# Altium integrated library Actel SmartFusion.IntLib: 80 symbols (part 11 of 14)
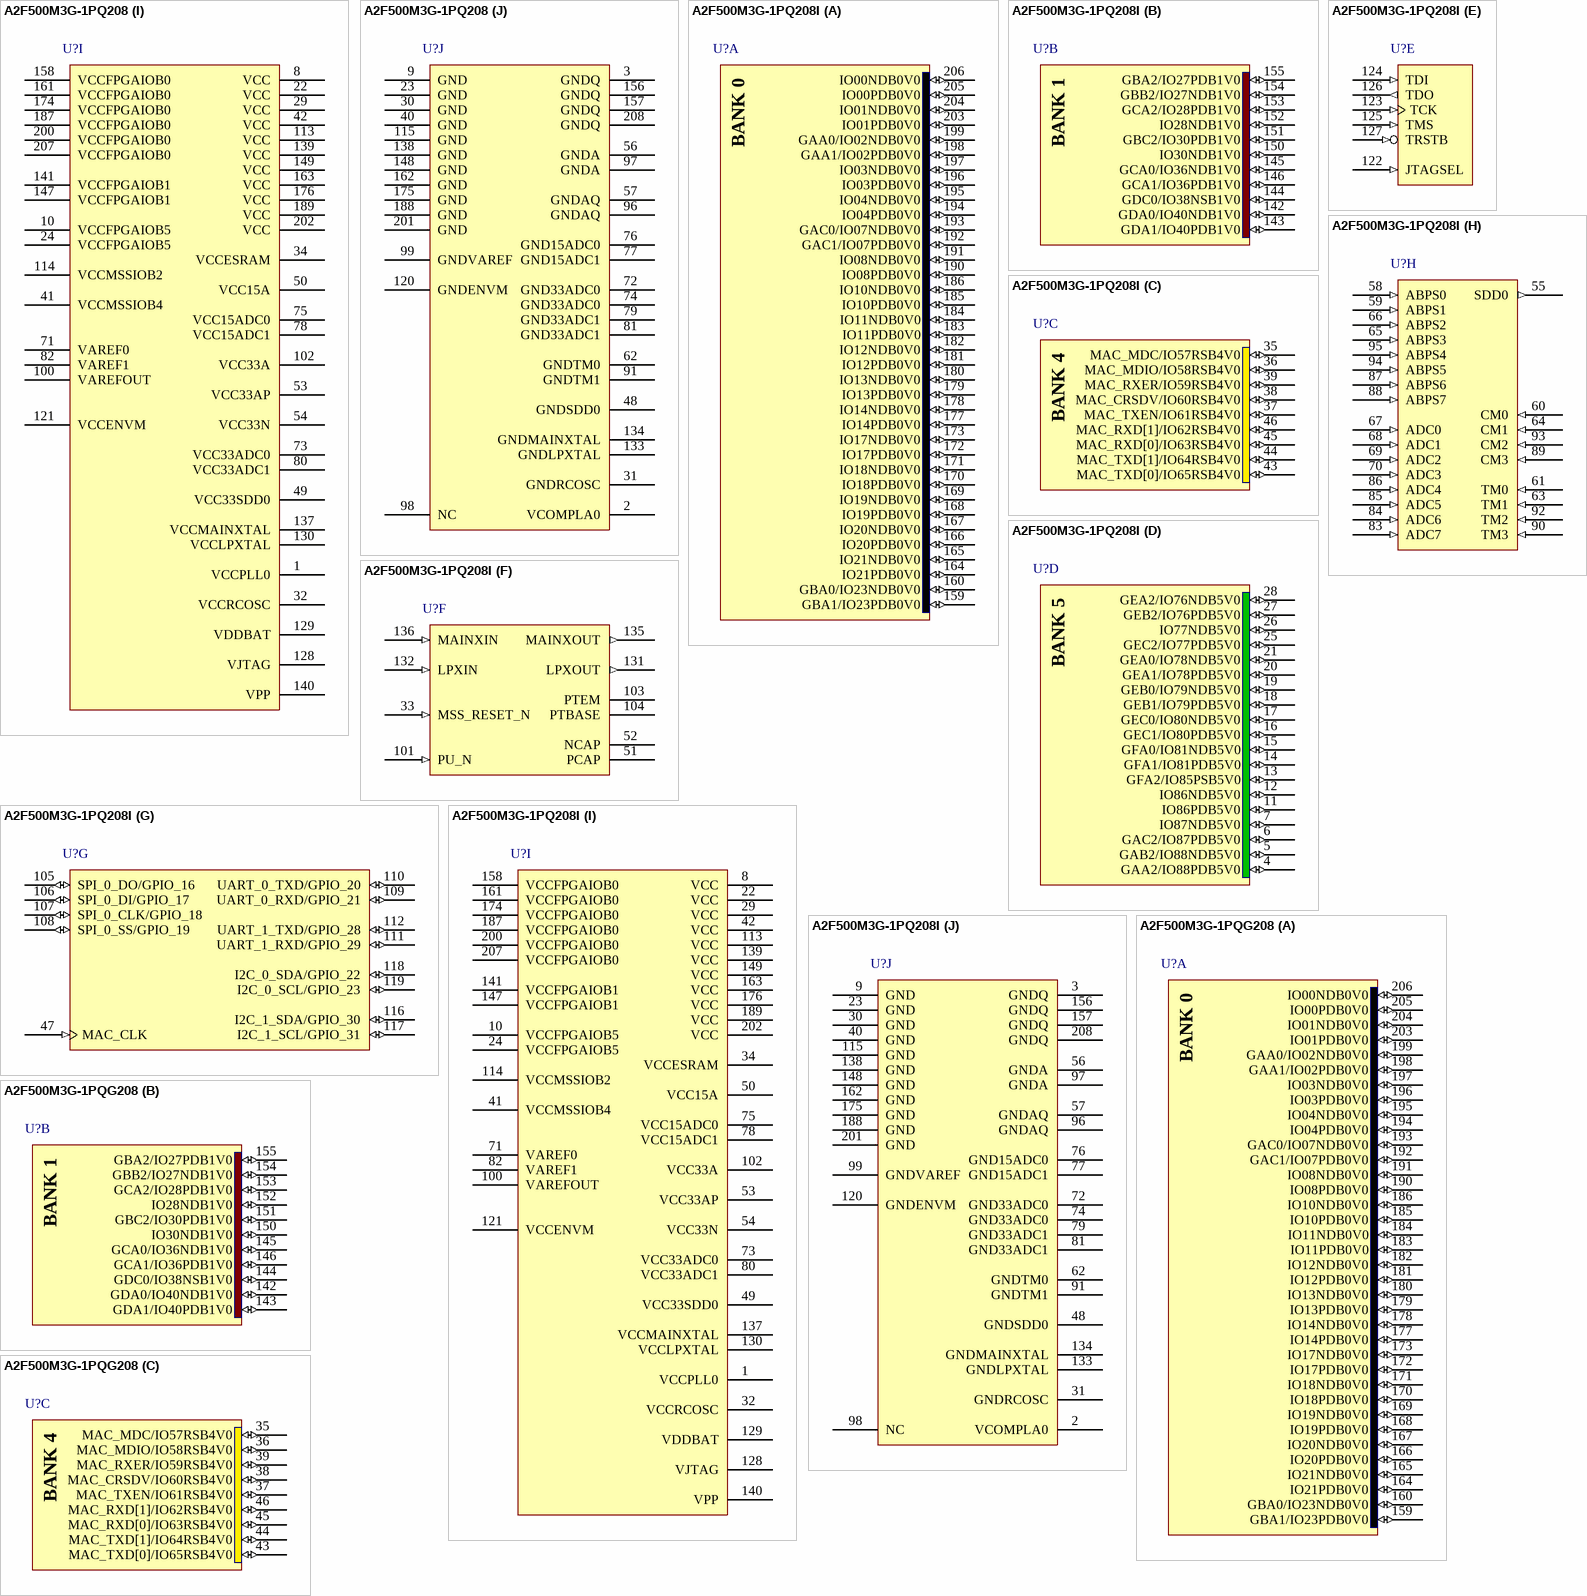
[diagram p95: symbols A2F500M3G-1PQ208 to A2F500M3G-1PQG208]

## A2F500M3G-1PQ208
designator U?
SmartFusion Intellegent Mixed-Signal FPGA with ARM Cortex-M3, 500000 System Gates, 208-Pin PQFP, 15% Faster than Standard Speed Grade, Commercial Grade; DatasheetVersion: rev7, Aug-2011; PackageVersion: ver11.2, Nov-2009; PackageReference: PQ208; PackageDescription: 208-Pin Plastic Quad Flat Pack (PQ208); Code_JEDEC: MS-029-FA-1; ComponentLink1Description: Manufacturer URL; ComponentLink1URL: http://www.actel.com/; ComponentLink2Description: SmartFusion Datasheet; ComponentLink2URL: http://www.actel.com/documents/SmartFusion_DS.pdf; ComponentLink3Description: Package Mechanical Drawings; ComponentLink3URL: http://www.actel.com/documents/PckgMechDrwngs.pdf; ComponentLink4Description: SmartFusion Documents; ComponentLink4URL: http://www.actel.com/products/smartfusion/docs.aspx
footprint PQ208_N (Shrink QFP, 208-Leads, Body 28x28mm, Pitch 0.5mm, IPC Medium Density)
footprint PQ208_L (Shrink QFP, 208-Leads, Body 28x28mm, Pitch 0.5mm, IPC High Density)
footprint PQ208_M (Shrink QFP, 208-Leads, Body 28x28mm, Pitch 0.5mm, IPC Low Density)
part A pins: 159 GBA1/IO23PDB0V0 (io), 160 GBA0/IO23NDB0V0 (io), 164 IO21PDB0V0 (io), 165 IO21NDB0V0 (io), 166 IO20PDB0V0 (io), 167 IO20NDB0V0 (io), 168 IO19PDB0V0 (io), 169 IO19NDB0V0 (io), 170 IO18PDB0V0 (io), 171 IO18NDB0V0 (io), 172 IO17PDB0V0 (io), 173 IO17NDB0V0 (io), 177 IO14PDB0V0 (io), 178 IO14NDB0V0 (io), 179 IO13PDB0V0 (io), 180 IO13NDB0V0 (io), 181 IO12PDB0V0 (io), 182 IO12NDB0V0 (io), 183 IO11PDB0V0 (io), 184 IO11NDB0V0 (io), 185 IO10PDB0V0 (io), 186 IO10NDB0V0 (io), 190 IO08PDB0V0 (io), 191 IO08NDB0V0 (io), 192 GAC1/IO07PDB0V0 (io), 193 GAC0/IO07NDB0V0 (io), 194 IO04PDB0V0 (io), 195 IO04NDB0V0 (io), 196 IO03PDB0V0 (io), 197 IO03NDB0V0 (io), 198 GAA1/IO02PDB0V0 (io), 199 GAA0/IO02NDB0V0 (io), 203 IO01PDB0V0 (io), 204 IO01NDB0V0 (io), 205 IO00PDB0V0 (io), 206 IO00NDB0V0 (io)
part B pins: 142 GDA0/IO40NDB1V0 (io), 143 GDA1/IO40PDB1V0 (io), 144 GDC0/IO38NSB1V0 (io), 145 GCA0/IO36NDB1V0 (io), 146 GCA1/IO36PDB1V0 (io), 150 IO30NDB1V0 (io), 151 GBC2/IO30PDB1V0 (io), 152 IO28NDB1V0 (io), 153 GCA2/IO28PDB1V0 (io), 154 GBB2/IO27NDB1V0 (io), 155 GBA2/IO27PDB1V0 (io)
part C pins: 35 MAC_MDC/IO57RSB4V0 (io), 36 MAC_MDIO/IO58RSB4V0 (io), 37 MAC_TXEN/IO61RSB4V0 (io), 38 MAC_CRSDV/IO60RSB4V0 (io), 39 MAC_RXER/IO59RSB4V0 (io), 43 MAC_TXD[0]/IO65RSB4V0 (io), 44 MAC_TXD[1]/IO64RSB4V0 (io), 45 MAC_RXD[0]/IO63RSB4V0 (io), 46 MAC_RXD[1]/IO62RSB4V0 (io)
part D pins: 4 GAA2/IO88PDB5V0 (io), 5 GAB2/IO88NDB5V0 (io), 6 GAC2/IO87PDB5V0 (io), 7 IO87NDB5V0 (io), 11 IO86PDB5V0 (io), 12 IO86NDB5V0 (io), 13 GFA2/IO85PSB5V0 (io), 14 GFA1/IO81PDB5V0 (io), 15 GFA0/IO81NDB5V0 (io), 16 GEC1/IO80PDB5V0 (io), 17 GEC0/IO80NDB5V0 (io), 18 GEB1/IO79PDB5V0 (io), 19 GEB0/IO79NDB5V0 (io), 20 GEA1/IO78PDB5V0 (io), 21 GEA0/IO78NDB5V0 (io), 25 GEC2/IO77PDB5V0 (io), 26 IO77NDB5V0 (io), 27 GEB2/IO76PDB5V0 (io), 28 GEA2/IO76NDB5V0 (io)
part E pins: 122 JTAGSEL (in), 123 TCK (in), 124 TDI (in), 125 TMS (in), 126 TDO (out), 127 TRSTB (in)
part F pins: 33 MSS_RESET_N (in), 51 PCAP, 52 NCAP, 101 PU_N (in), 103 PTEM, 104 PTBASE, 131 LPXOUT (out), 132 LPXIN (in), 135 MAINXOUT (out), 136 MAINXIN (in)
part G pins: 47 MAC_CLK (in), 105 SPI_0_DO/GPIO_16 (io), 106 SPI_0_DI/GPIO_17 (io), 107 SPI_0_CLK/GPIO_18 (io), 108 SPI_0_SS/GPIO_19 (io), 109 UART_0_RXD/GPIO_21 (io), 110 UART_0_TXD/GPIO_20 (io), 111 UART_1_RXD/GPIO_29 (io), 112 UART_1_TXD/GPIO_28 (io), 116 I2C_1_SDA/GPIO_30 (io), 117 I2C_1_SCL/GPIO_31 (io), 118 I2C_0_SDA/GPIO_22 (io), 119 I2C_0_SCL/GPIO_23 (io)
part H pins: 55 SDD0 (out), 58 ABPS0 (in), 59 ABPS1 (in), 60 CM0 (in), 61 TM0 (in), 63 TM1 (in), 64 CM1 (in), 65 ABPS3 (in), 66 ABPS2 (in), 67 ADC0 (in), 68 ADC1 (in), 69 ADC2 (in), 70 ADC3 (in), 83 ADC7 (in), 84 ADC6 (in), 85 ADC5 (in), 86 ADC4 (in), 87 ABPS6 (in), 88 ABPS7 (in), 89 CM3 (in), 90 TM3 (in), 92 TM2 (in), 93 CM2 (in), 94 ABPS5 (in), 95 ABPS4 (in)
part I pins: 1 VCCPLL0 (power), 8 VCC (power), 10 VCCFPGAIOB5 (power), 22 VCC (power), 24 VCCFPGAIOB5 (power), 29 VCC (power), 32 VCCRCOSC (power), 34 VCCESRAM (power), 41 VCCMSSIOB4 (power), 42 VCC (power), 49 VCC33SDD0 (power), 50 VCC15A (power), 53 VCC33AP (power), 54 VCC33N (power), 71 VAREF0 (power), 73 VCC33ADC0 (power), 75 VCC15ADC0 (power), 78 VCC15ADC1 (power), 80 VCC33ADC1 (power), 82 VAREF1 (power), 100 VAREFOUT (power), 102 VCC33A (power), 113 VCC (power), 114 VCCMSSIOB2 (power), 121 VCCENVM (power), 128 VJTAG (power), 129 VDDBAT (power), 130 VCCLPXTAL (power), 137 VCCMAINXTAL (power), 139 VCC (power), 140 VPP (power), 141 VCCFPGAIOB1 (power), 147 VCCFPGAIOB1 (power), 149 VCC (power), 158 VCCFPGAIOB0 (power), 161 VCCFPGAIOB0 (power), 163 VCC (power), 174 VCCFPGAIOB0 (power), 176 VCC (power), 187 VCCFPGAIOB0 (power), 189 VCC (power), 200 VCCFPGAIOB0 (power), 202 VCC (power), 207 VCCFPGAIOB0 (power)
part J pins: 2 VCOMPLA0 (power), 3 GNDQ (power), 9 GND (power), 23 GND (power), 30 GND (power), 31 GNDRCOSC (power), 40 GND (power), 48 GNDSDD0 (power), 56 GNDA (power), 57 GNDAQ (power), 62 GNDTM0 (power), 72 GND33ADC0 (power), 74 GND33ADC0 (power), 76 GND15ADC0 (power), 77 GND15ADC1 (power), 79 GND33ADC1 (power), 81 GND33ADC1 (power), 91 GNDTM1 (power), 96 GNDAQ (power), 97 GNDA (power), 98 NC, 99 GNDVAREF (power), 115 GND (power), 120 GNDENVM (power), 133 GNDLPXTAL (power), 134 GNDMAINXTAL (power), 138 GND (power), 148 GND (power), 156 GNDQ (power), 157 GNDQ (power), 162 GND (power), 175 GND (power), 188 GND (power), 201 GND (power), 208 GNDQ (power)
part A text: BANK 0
part B text: BANK 1
part C text: BANK 4
part D text: BANK 5

## A2F500M3G-1PQ208I
designator U?
SmartFusion Intellegent Mixed-Signal FPGA with ARM Cortex-M3, 500000 System Gates, 208-Pin PQFP, 15% Faster than Standard Speed Grade, Industrial Grade; DatasheetVersion: rev7, Aug-2011; PackageVersion: ver11.2, Nov-2009; PackageReference: PQ208; PackageDescription: 208-Pin Plastic Quad Flat Pack (PQ208); Code_JEDEC: MS-029-FA-1; ComponentLink1Description: Manufacturer URL; ComponentLink1URL: http://www.actel.com/; ComponentLink2Description: SmartFusion Datasheet; ComponentLink2URL: http://www.actel.com/documents/SmartFusion_DS.pdf; ComponentLink3Description: Package Mechanical Drawings; ComponentLink3URL: http://www.actel.com/documents/PckgMechDrwngs.pdf; ComponentLink4Description: SmartFusion Documents; ComponentLink4URL: http://www.actel.com/products/smartfusion/docs.aspx
footprint PQ208_N (Shrink QFP, 208-Leads, Body 28x28mm, Pitch 0.5mm, IPC Medium Density)
footprint PQ208_L (Shrink QFP, 208-Leads, Body 28x28mm, Pitch 0.5mm, IPC High Density)
footprint PQ208_M (Shrink QFP, 208-Leads, Body 28x28mm, Pitch 0.5mm, IPC Low Density)
part A pins: 159 GBA1/IO23PDB0V0 (io), 160 GBA0/IO23NDB0V0 (io), 164 IO21PDB0V0 (io), 165 IO21NDB0V0 (io), 166 IO20PDB0V0 (io), 167 IO20NDB0V0 (io), 168 IO19PDB0V0 (io), 169 IO19NDB0V0 (io), 170 IO18PDB0V0 (io), 171 IO18NDB0V0 (io), 172 IO17PDB0V0 (io), 173 IO17NDB0V0 (io), 177 IO14PDB0V0 (io), 178 IO14NDB0V0 (io), 179 IO13PDB0V0 (io), 180 IO13NDB0V0 (io), 181 IO12PDB0V0 (io), 182 IO12NDB0V0 (io), 183 IO11PDB0V0 (io), 184 IO11NDB0V0 (io), 185 IO10PDB0V0 (io), 186 IO10NDB0V0 (io), 190 IO08PDB0V0 (io), 191 IO08NDB0V0 (io), 192 GAC1/IO07PDB0V0 (io), 193 GAC0/IO07NDB0V0 (io), 194 IO04PDB0V0 (io), 195 IO04NDB0V0 (io), 196 IO03PDB0V0 (io), 197 IO03NDB0V0 (io), 198 GAA1/IO02PDB0V0 (io), 199 GAA0/IO02NDB0V0 (io), 203 IO01PDB0V0 (io), 204 IO01NDB0V0 (io), 205 IO00PDB0V0 (io), 206 IO00NDB0V0 (io)
part B pins: 142 GDA0/IO40NDB1V0 (io), 143 GDA1/IO40PDB1V0 (io), 144 GDC0/IO38NSB1V0 (io), 145 GCA0/IO36NDB1V0 (io), 146 GCA1/IO36PDB1V0 (io), 150 IO30NDB1V0 (io), 151 GBC2/IO30PDB1V0 (io), 152 IO28NDB1V0 (io), 153 GCA2/IO28PDB1V0 (io), 154 GBB2/IO27NDB1V0 (io), 155 GBA2/IO27PDB1V0 (io)
part C pins: 35 MAC_MDC/IO57RSB4V0 (io), 36 MAC_MDIO/IO58RSB4V0 (io), 37 MAC_TXEN/IO61RSB4V0 (io), 38 MAC_CRSDV/IO60RSB4V0 (io), 39 MAC_RXER/IO59RSB4V0 (io), 43 MAC_TXD[0]/IO65RSB4V0 (io), 44 MAC_TXD[1]/IO64RSB4V0 (io), 45 MAC_RXD[0]/IO63RSB4V0 (io), 46 MAC_RXD[1]/IO62RSB4V0 (io)
part D pins: 4 GAA2/IO88PDB5V0 (io), 5 GAB2/IO88NDB5V0 (io), 6 GAC2/IO87PDB5V0 (io), 7 IO87NDB5V0 (io), 11 IO86PDB5V0 (io), 12 IO86NDB5V0 (io), 13 GFA2/IO85PSB5V0 (io), 14 GFA1/IO81PDB5V0 (io), 15 GFA0/IO81NDB5V0 (io), 16 GEC1/IO80PDB5V0 (io), 17 GEC0/IO80NDB5V0 (io), 18 GEB1/IO79PDB5V0 (io), 19 GEB0/IO79NDB5V0 (io), 20 GEA1/IO78PDB5V0 (io), 21 GEA0/IO78NDB5V0 (io), 25 GEC2/IO77PDB5V0 (io), 26 IO77NDB5V0 (io), 27 GEB2/IO76PDB5V0 (io), 28 GEA2/IO76NDB5V0 (io)
part E pins: 122 JTAGSEL (in), 123 TCK (in), 124 TDI (in), 125 TMS (in), 126 TDO (out), 127 TRSTB (in)
part F pins: 33 MSS_RESET_N (in), 51 PCAP, 52 NCAP, 101 PU_N (in), 103 PTEM, 104 PTBASE, 131 LPXOUT (out), 132 LPXIN (in), 135 MAINXOUT (out), 136 MAINXIN (in)
part G pins: 47 MAC_CLK (in), 105 SPI_0_DO/GPIO_16 (io), 106 SPI_0_DI/GPIO_17 (io), 107 SPI_0_CLK/GPIO_18 (io), 108 SPI_0_SS/GPIO_19 (io), 109 UART_0_RXD/GPIO_21 (io), 110 UART_0_TXD/GPIO_20 (io), 111 UART_1_RXD/GPIO_29 (io), 112 UART_1_TXD/GPIO_28 (io), 116 I2C_1_SDA/GPIO_30 (io), 117 I2C_1_SCL/GPIO_31 (io), 118 I2C_0_SDA/GPIO_22 (io), 119 I2C_0_SCL/GPIO_23 (io)
part H pins: 55 SDD0 (out), 58 ABPS0 (in), 59 ABPS1 (in), 60 CM0 (in), 61 TM0 (in), 63 TM1 (in), 64 CM1 (in), 65 ABPS3 (in), 66 ABPS2 (in), 67 ADC0 (in), 68 ADC1 (in), 69 ADC2 (in), 70 ADC3 (in), 83 ADC7 (in), 84 ADC6 (in), 85 ADC5 (in), 86 ADC4 (in), 87 ABPS6 (in), 88 ABPS7 (in), 89 CM3 (in), 90 TM3 (in), 92 TM2 (in), 93 CM2 (in), 94 ABPS5 (in), 95 ABPS4 (in)
part I pins: 1 VCCPLL0 (power), 8 VCC (power), 10 VCCFPGAIOB5 (power), 22 VCC (power), 24 VCCFPGAIOB5 (power), 29 VCC (power), 32 VCCRCOSC (power), 34 VCCESRAM (power), 41 VCCMSSIOB4 (power), 42 VCC (power), 49 VCC33SDD0 (power), 50 VCC15A (power), 53 VCC33AP (power), 54 VCC33N (power), 71 VAREF0 (power), 73 VCC33ADC0 (power), 75 VCC15ADC0 (power), 78 VCC15ADC1 (power), 80 VCC33ADC1 (power), 82 VAREF1 (power), 100 VAREFOUT (power), 102 VCC33A (power), 113 VCC (power), 114 VCCMSSIOB2 (power), 121 VCCENVM (power), 128 VJTAG (power), 129 VDDBAT (power), 130 VCCLPXTAL (power), 137 VCCMAINXTAL (power), 139 VCC (power), 140 VPP (power), 141 VCCFPGAIOB1 (power), 147 VCCFPGAIOB1 (power), 149 VCC (power), 158 VCCFPGAIOB0 (power), 161 VCCFPGAIOB0 (power), 163 VCC (power), 174 VCCFPGAIOB0 (power), 176 VCC (power), 187 VCCFPGAIOB0 (power), 189 VCC (power), 200 VCCFPGAIOB0 (power), 202 VCC (power), 207 VCCFPGAIOB0 (power)
part J pins: 2 VCOMPLA0 (power), 3 GNDQ (power), 9 GND (power), 23 GND (power), 30 GND (power), 31 GNDRCOSC (power), 40 GND (power), 48 GNDSDD0 (power), 56 GNDA (power), 57 GNDAQ (power), 62 GNDTM0 (power), 72 GND33ADC0 (power), 74 GND33ADC0 (power), 76 GND15ADC0 (power), 77 GND15ADC1 (power), 79 GND33ADC1 (power), 81 GND33ADC1 (power), 91 GNDTM1 (power), 96 GNDAQ (power), 97 GNDA (power), 98 NC, 99 GNDVAREF (power), 115 GND (power), 120 GNDENVM (power), 133 GNDLPXTAL (power), 134 GNDMAINXTAL (power), 138 GND (power), 148 GND (power), 156 GNDQ (power), 157 GNDQ (power), 162 GND (power), 175 GND (power), 188 GND (power), 201 GND (power), 208 GNDQ (power)
part A text: BANK 0
part B text: BANK 1
part C text: BANK 4
part D text: BANK 5

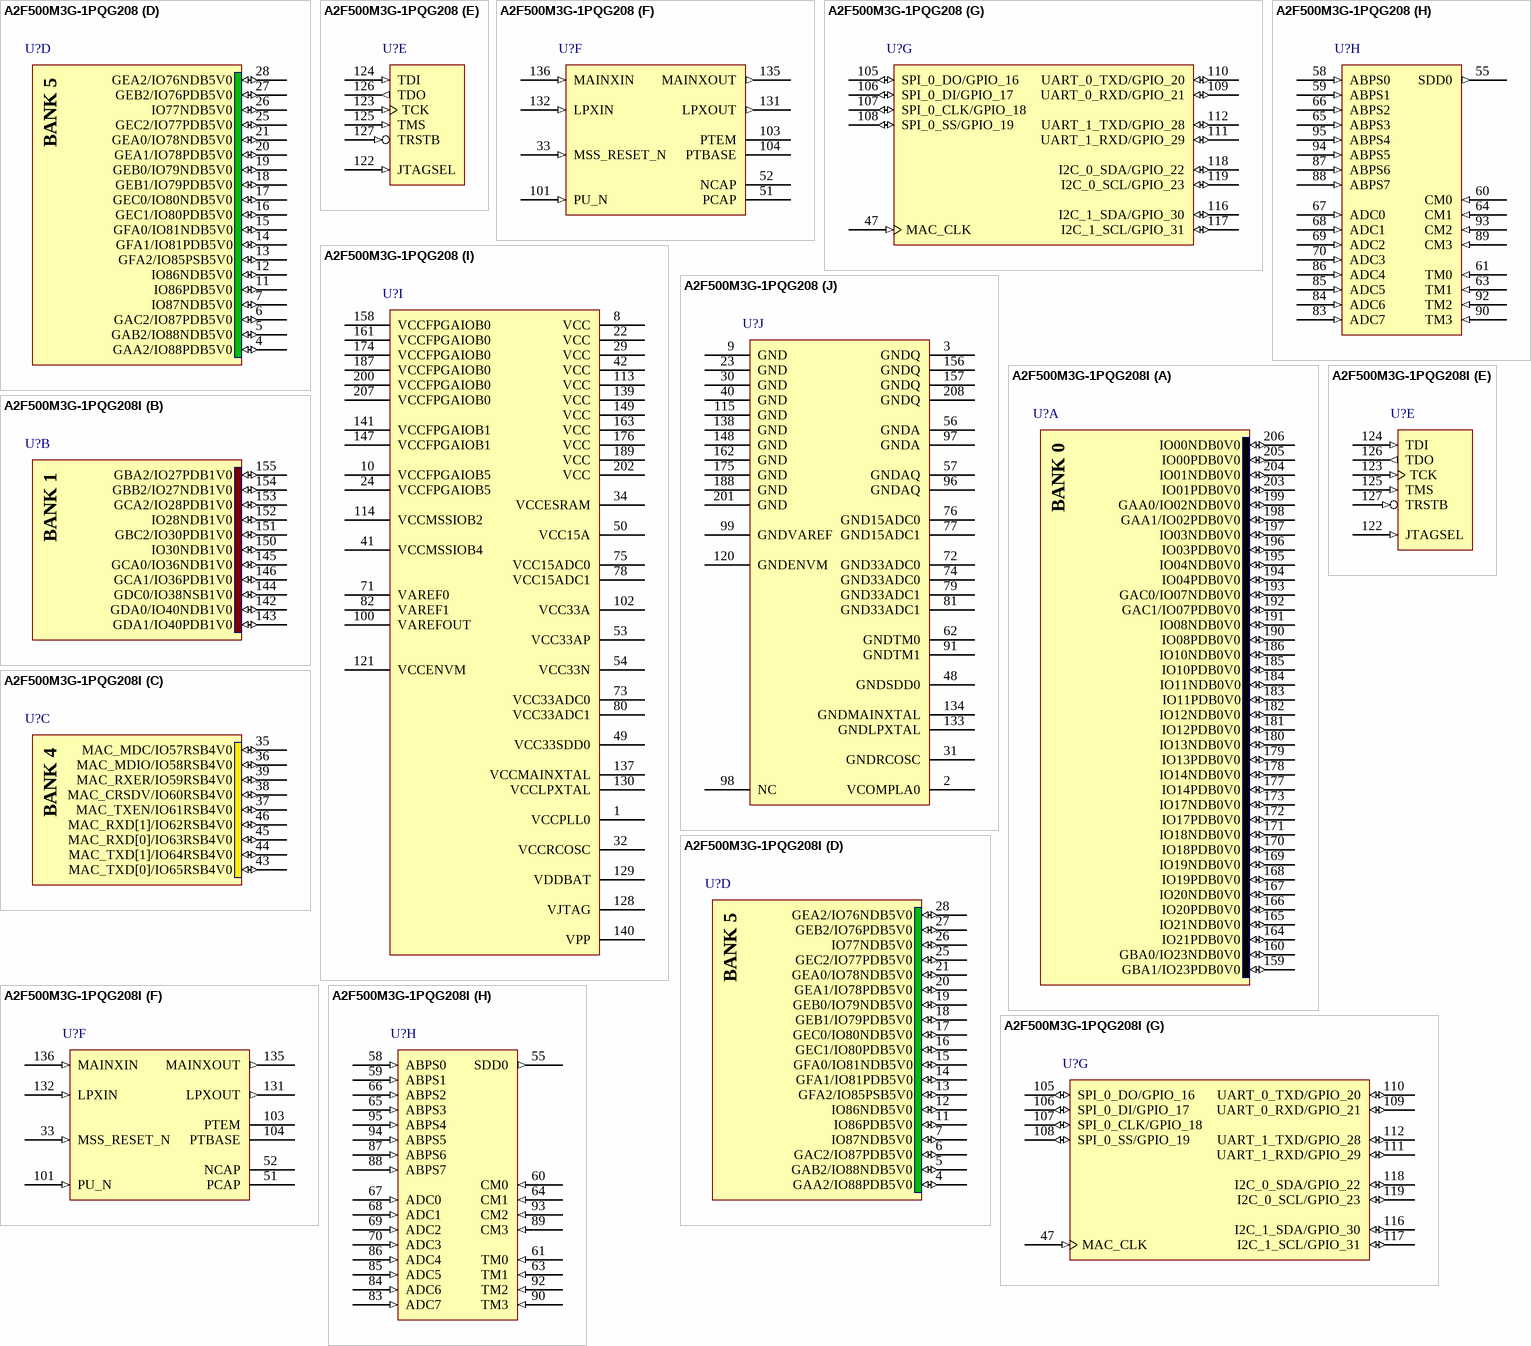
[diagram p67: symbols A2F500M3G-1PQG208 to A2F500M3G-1PQG208I]

## A2F500M3G-1PQG208
designator U?
SmartFusion Intellegent Mixed-Signal FPGA with ARM Cortex-M3, 500000 System Gates, 208-Pin PQFP, 15% Faster than Standard Speed Grade, Commercial Grade, Pb-Free; DatasheetVersion: rev7, Aug-2011; PackageVersion: ver11.2, Nov-2009; PackageReference: PQ208; PackageDescription: 208-Pin Plastic Quad Flat Pack (PQ208); Code_JEDEC: MS-029-FA-1; ComponentLink1Description: Manufacturer URL; ComponentLink1URL: http://www.actel.com/; ComponentLink2Description: SmartFusion Datasheet; ComponentLink2URL: http://www.actel.com/documents/SmartFusion_DS.pdf; ComponentLink3Description: Package Mechanical Drawings; ComponentLink3URL: http://www.actel.com/documents/PckgMechDrwngs.pdf; ComponentLink4Description: SmartFusion Documents; ComponentLink4URL: http://www.actel.com/products/smartfusion/docs.aspx
footprint PQ208_N (Shrink QFP, 208-Leads, Body 28x28mm, Pitch 0.5mm, IPC Medium Density)
footprint PQ208_L (Shrink QFP, 208-Leads, Body 28x28mm, Pitch 0.5mm, IPC High Density)
footprint PQ208_M (Shrink QFP, 208-Leads, Body 28x28mm, Pitch 0.5mm, IPC Low Density)
part A pins: 159 GBA1/IO23PDB0V0 (io), 160 GBA0/IO23NDB0V0 (io), 164 IO21PDB0V0 (io), 165 IO21NDB0V0 (io), 166 IO20PDB0V0 (io), 167 IO20NDB0V0 (io), 168 IO19PDB0V0 (io), 169 IO19NDB0V0 (io), 170 IO18PDB0V0 (io), 171 IO18NDB0V0 (io), 172 IO17PDB0V0 (io), 173 IO17NDB0V0 (io), 177 IO14PDB0V0 (io), 178 IO14NDB0V0 (io), 179 IO13PDB0V0 (io), 180 IO13NDB0V0 (io), 181 IO12PDB0V0 (io), 182 IO12NDB0V0 (io), 183 IO11PDB0V0 (io), 184 IO11NDB0V0 (io), 185 IO10PDB0V0 (io), 186 IO10NDB0V0 (io), 190 IO08PDB0V0 (io), 191 IO08NDB0V0 (io), 192 GAC1/IO07PDB0V0 (io), 193 GAC0/IO07NDB0V0 (io), 194 IO04PDB0V0 (io), 195 IO04NDB0V0 (io), 196 IO03PDB0V0 (io), 197 IO03NDB0V0 (io), 198 GAA1/IO02PDB0V0 (io), 199 GAA0/IO02NDB0V0 (io), 203 IO01PDB0V0 (io), 204 IO01NDB0V0 (io), 205 IO00PDB0V0 (io), 206 IO00NDB0V0 (io)
part B pins: 142 GDA0/IO40NDB1V0 (io), 143 GDA1/IO40PDB1V0 (io), 144 GDC0/IO38NSB1V0 (io), 145 GCA0/IO36NDB1V0 (io), 146 GCA1/IO36PDB1V0 (io), 150 IO30NDB1V0 (io), 151 GBC2/IO30PDB1V0 (io), 152 IO28NDB1V0 (io), 153 GCA2/IO28PDB1V0 (io), 154 GBB2/IO27NDB1V0 (io), 155 GBA2/IO27PDB1V0 (io)
part C pins: 35 MAC_MDC/IO57RSB4V0 (io), 36 MAC_MDIO/IO58RSB4V0 (io), 37 MAC_TXEN/IO61RSB4V0 (io), 38 MAC_CRSDV/IO60RSB4V0 (io), 39 MAC_RXER/IO59RSB4V0 (io), 43 MAC_TXD[0]/IO65RSB4V0 (io), 44 MAC_TXD[1]/IO64RSB4V0 (io), 45 MAC_RXD[0]/IO63RSB4V0 (io), 46 MAC_RXD[1]/IO62RSB4V0 (io)
part D pins: 4 GAA2/IO88PDB5V0 (io), 5 GAB2/IO88NDB5V0 (io), 6 GAC2/IO87PDB5V0 (io), 7 IO87NDB5V0 (io), 11 IO86PDB5V0 (io), 12 IO86NDB5V0 (io), 13 GFA2/IO85PSB5V0 (io), 14 GFA1/IO81PDB5V0 (io), 15 GFA0/IO81NDB5V0 (io), 16 GEC1/IO80PDB5V0 (io), 17 GEC0/IO80NDB5V0 (io), 18 GEB1/IO79PDB5V0 (io), 19 GEB0/IO79NDB5V0 (io), 20 GEA1/IO78PDB5V0 (io), 21 GEA0/IO78NDB5V0 (io), 25 GEC2/IO77PDB5V0 (io), 26 IO77NDB5V0 (io), 27 GEB2/IO76PDB5V0 (io), 28 GEA2/IO76NDB5V0 (io)
part E pins: 122 JTAGSEL (in), 123 TCK (in), 124 TDI (in), 125 TMS (in), 126 TDO (out), 127 TRSTB (in)
part F pins: 33 MSS_RESET_N (in), 51 PCAP, 52 NCAP, 101 PU_N (in), 103 PTEM, 104 PTBASE, 131 LPXOUT (out), 132 LPXIN (in), 135 MAINXOUT (out), 136 MAINXIN (in)
part G pins: 47 MAC_CLK (in), 105 SPI_0_DO/GPIO_16 (io), 106 SPI_0_DI/GPIO_17 (io), 107 SPI_0_CLK/GPIO_18 (io), 108 SPI_0_SS/GPIO_19 (io), 109 UART_0_RXD/GPIO_21 (io), 110 UART_0_TXD/GPIO_20 (io), 111 UART_1_RXD/GPIO_29 (io), 112 UART_1_TXD/GPIO_28 (io), 116 I2C_1_SDA/GPIO_30 (io), 117 I2C_1_SCL/GPIO_31 (io), 118 I2C_0_SDA/GPIO_22 (io), 119 I2C_0_SCL/GPIO_23 (io)
part H pins: 55 SDD0 (out), 58 ABPS0 (in), 59 ABPS1 (in), 60 CM0 (in), 61 TM0 (in), 63 TM1 (in), 64 CM1 (in), 65 ABPS3 (in), 66 ABPS2 (in), 67 ADC0 (in), 68 ADC1 (in), 69 ADC2 (in), 70 ADC3 (in), 83 ADC7 (in), 84 ADC6 (in), 85 ADC5 (in), 86 ADC4 (in), 87 ABPS6 (in), 88 ABPS7 (in), 89 CM3 (in), 90 TM3 (in), 92 TM2 (in), 93 CM2 (in), 94 ABPS5 (in), 95 ABPS4 (in)
part I pins: 1 VCCPLL0 (power), 8 VCC (power), 10 VCCFPGAIOB5 (power), 22 VCC (power), 24 VCCFPGAIOB5 (power), 29 VCC (power), 32 VCCRCOSC (power), 34 VCCESRAM (power), 41 VCCMSSIOB4 (power), 42 VCC (power), 49 VCC33SDD0 (power), 50 VCC15A (power), 53 VCC33AP (power), 54 VCC33N (power), 71 VAREF0 (power), 73 VCC33ADC0 (power), 75 VCC15ADC0 (power), 78 VCC15ADC1 (power), 80 VCC33ADC1 (power), 82 VAREF1 (power), 100 VAREFOUT (power), 102 VCC33A (power), 113 VCC (power), 114 VCCMSSIOB2 (power), 121 VCCENVM (power), 128 VJTAG (power), 129 VDDBAT (power), 130 VCCLPXTAL (power), 137 VCCMAINXTAL (power), 139 VCC (power), 140 VPP (power), 141 VCCFPGAIOB1 (power), 147 VCCFPGAIOB1 (power), 149 VCC (power), 158 VCCFPGAIOB0 (power), 161 VCCFPGAIOB0 (power), 163 VCC (power), 174 VCCFPGAIOB0 (power), 176 VCC (power), 187 VCCFPGAIOB0 (power), 189 VCC (power), 200 VCCFPGAIOB0 (power), 202 VCC (power), 207 VCCFPGAIOB0 (power)
part J pins: 2 VCOMPLA0 (power), 3 GNDQ (power), 9 GND (power), 23 GND (power), 30 GND (power), 31 GNDRCOSC (power), 40 GND (power), 48 GNDSDD0 (power), 56 GNDA (power), 57 GNDAQ (power), 62 GNDTM0 (power), 72 GND33ADC0 (power), 74 GND33ADC0 (power), 76 GND15ADC0 (power), 77 GND15ADC1 (power), 79 GND33ADC1 (power), 81 GND33ADC1 (power), 91 GNDTM1 (power), 96 GNDAQ (power), 97 GNDA (power), 98 NC, 99 GNDVAREF (power), 115 GND (power), 120 GNDENVM (power), 133 GNDLPXTAL (power), 134 GNDMAINXTAL (power), 138 GND (power), 148 GND (power), 156 GNDQ (power), 157 GNDQ (power), 162 GND (power), 175 GND (power), 188 GND (power), 201 GND (power), 208 GNDQ (power)
part A text: BANK 0
part B text: BANK 1
part C text: BANK 4
part D text: BANK 5

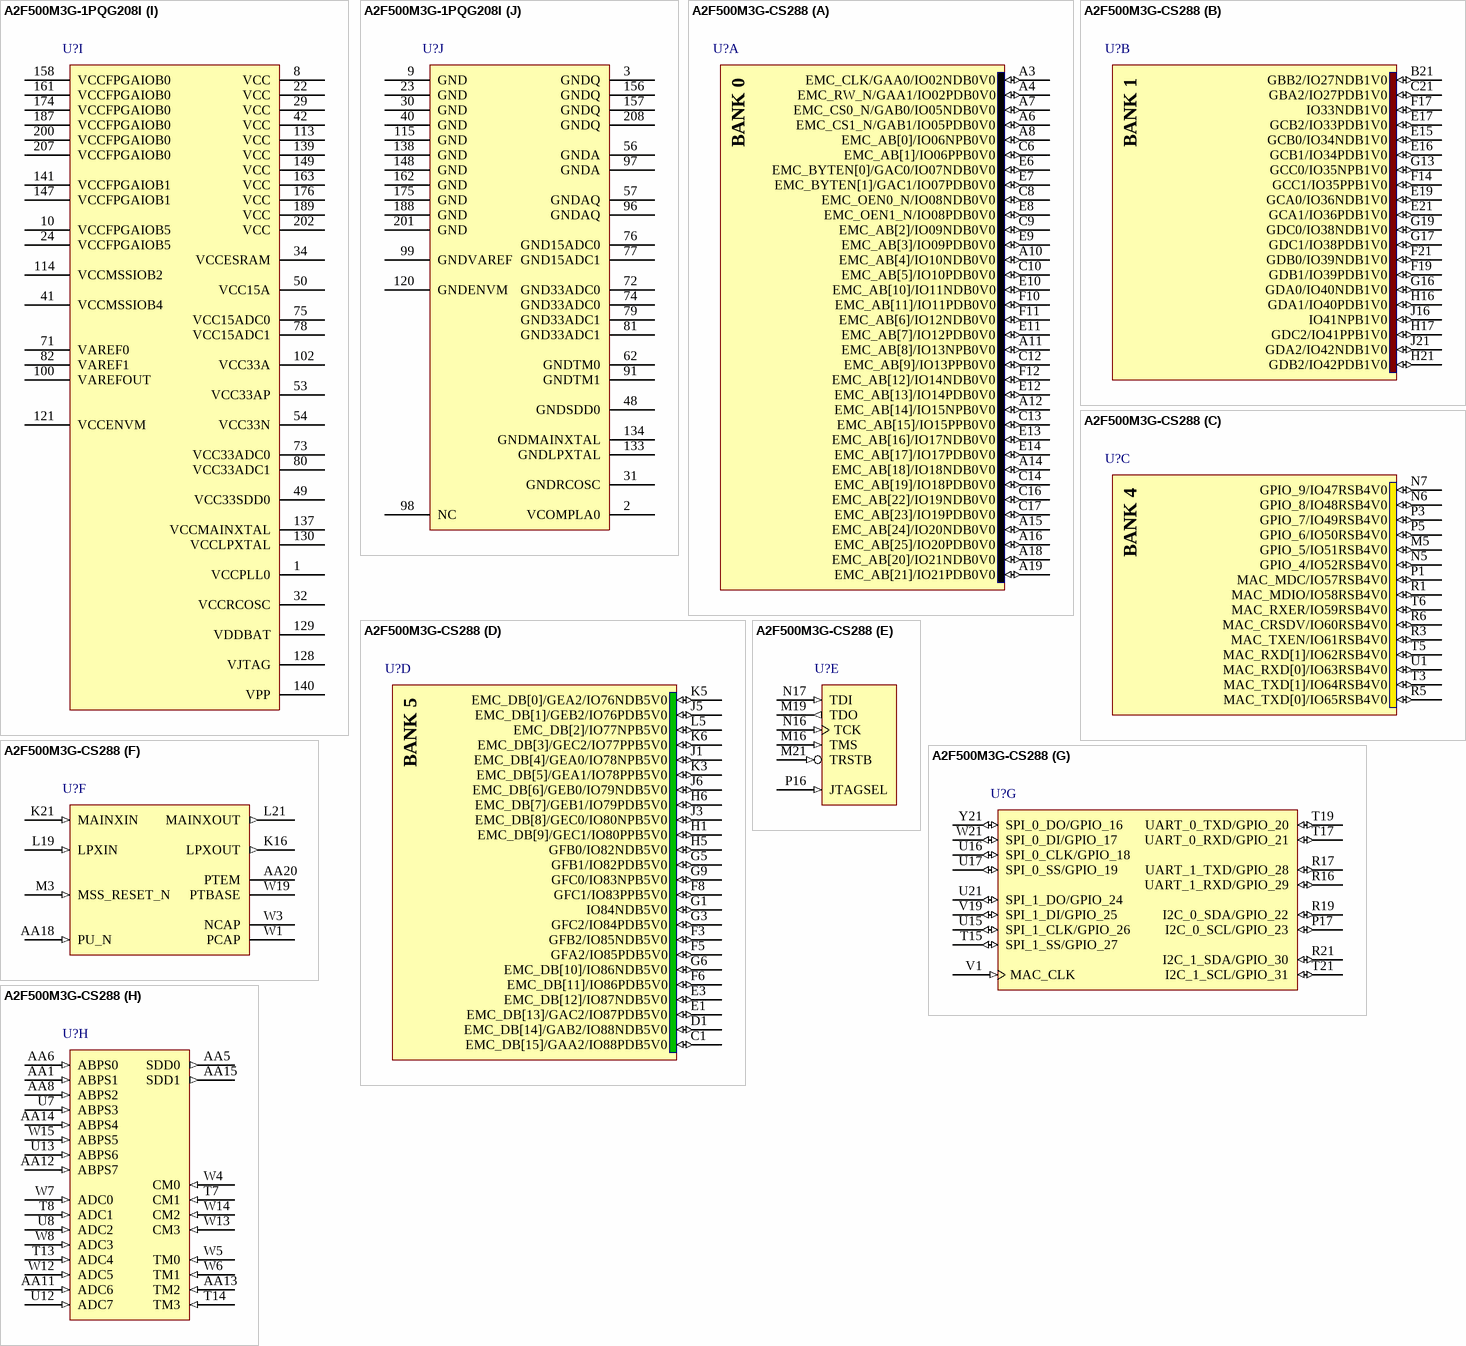
[diagram p68: symbols A2F500M3G-1PQG208I to A2F500M3G-CS288]

## A2F500M3G-1PQG208I
designator U?
SmartFusion Intellegent Mixed-Signal FPGA with ARM Cortex-M3, 500000 System Gates, 208-Pin PQFP, 15% Faster than Standard Speed Grade, Industrial Grade, Pb-Free; DatasheetVersion: rev7, Aug-2011; PackageVersion: ver11.2, Nov-2009; PackageReference: PQ208; PackageDescription: 208-Pin Plastic Quad Flat Pack (PQ208); Code_JEDEC: MS-029-FA-1; ComponentLink1Description: Manufacturer URL; ComponentLink1URL: http://www.actel.com/; ComponentLink2Description: SmartFusion Datasheet; ComponentLink2URL: http://www.actel.com/documents/SmartFusion_DS.pdf; ComponentLink3Description: Package Mechanical Drawings; ComponentLink3URL: http://www.actel.com/documents/PckgMechDrwngs.pdf; ComponentLink4Description: SmartFusion Documents; ComponentLink4URL: http://www.actel.com/products/smartfusion/docs.aspx
footprint PQ208_N (Shrink QFP, 208-Leads, Body 28x28mm, Pitch 0.5mm, IPC Medium Density)
footprint PQ208_L (Shrink QFP, 208-Leads, Body 28x28mm, Pitch 0.5mm, IPC High Density)
footprint PQ208_M (Shrink QFP, 208-Leads, Body 28x28mm, Pitch 0.5mm, IPC Low Density)
part A pins: 159 GBA1/IO23PDB0V0 (io), 160 GBA0/IO23NDB0V0 (io), 164 IO21PDB0V0 (io), 165 IO21NDB0V0 (io), 166 IO20PDB0V0 (io), 167 IO20NDB0V0 (io), 168 IO19PDB0V0 (io), 169 IO19NDB0V0 (io), 170 IO18PDB0V0 (io), 171 IO18NDB0V0 (io), 172 IO17PDB0V0 (io), 173 IO17NDB0V0 (io), 177 IO14PDB0V0 (io), 178 IO14NDB0V0 (io), 179 IO13PDB0V0 (io), 180 IO13NDB0V0 (io), 181 IO12PDB0V0 (io), 182 IO12NDB0V0 (io), 183 IO11PDB0V0 (io), 184 IO11NDB0V0 (io), 185 IO10PDB0V0 (io), 186 IO10NDB0V0 (io), 190 IO08PDB0V0 (io), 191 IO08NDB0V0 (io), 192 GAC1/IO07PDB0V0 (io), 193 GAC0/IO07NDB0V0 (io), 194 IO04PDB0V0 (io), 195 IO04NDB0V0 (io), 196 IO03PDB0V0 (io), 197 IO03NDB0V0 (io), 198 GAA1/IO02PDB0V0 (io), 199 GAA0/IO02NDB0V0 (io), 203 IO01PDB0V0 (io), 204 IO01NDB0V0 (io), 205 IO00PDB0V0 (io), 206 IO00NDB0V0 (io)
part B pins: 142 GDA0/IO40NDB1V0 (io), 143 GDA1/IO40PDB1V0 (io), 144 GDC0/IO38NSB1V0 (io), 145 GCA0/IO36NDB1V0 (io), 146 GCA1/IO36PDB1V0 (io), 150 IO30NDB1V0 (io), 151 GBC2/IO30PDB1V0 (io), 152 IO28NDB1V0 (io), 153 GCA2/IO28PDB1V0 (io), 154 GBB2/IO27NDB1V0 (io), 155 GBA2/IO27PDB1V0 (io)
part C pins: 35 MAC_MDC/IO57RSB4V0 (io), 36 MAC_MDIO/IO58RSB4V0 (io), 37 MAC_TXEN/IO61RSB4V0 (io), 38 MAC_CRSDV/IO60RSB4V0 (io), 39 MAC_RXER/IO59RSB4V0 (io), 43 MAC_TXD[0]/IO65RSB4V0 (io), 44 MAC_TXD[1]/IO64RSB4V0 (io), 45 MAC_RXD[0]/IO63RSB4V0 (io), 46 MAC_RXD[1]/IO62RSB4V0 (io)
part D pins: 4 GAA2/IO88PDB5V0 (io), 5 GAB2/IO88NDB5V0 (io), 6 GAC2/IO87PDB5V0 (io), 7 IO87NDB5V0 (io), 11 IO86PDB5V0 (io), 12 IO86NDB5V0 (io), 13 GFA2/IO85PSB5V0 (io), 14 GFA1/IO81PDB5V0 (io), 15 GFA0/IO81NDB5V0 (io), 16 GEC1/IO80PDB5V0 (io), 17 GEC0/IO80NDB5V0 (io), 18 GEB1/IO79PDB5V0 (io), 19 GEB0/IO79NDB5V0 (io), 20 GEA1/IO78PDB5V0 (io), 21 GEA0/IO78NDB5V0 (io), 25 GEC2/IO77PDB5V0 (io), 26 IO77NDB5V0 (io), 27 GEB2/IO76PDB5V0 (io), 28 GEA2/IO76NDB5V0 (io)
part E pins: 122 JTAGSEL (in), 123 TCK (in), 124 TDI (in), 125 TMS (in), 126 TDO (out), 127 TRSTB (in)
part F pins: 33 MSS_RESET_N (in), 51 PCAP, 52 NCAP, 101 PU_N (in), 103 PTEM, 104 PTBASE, 131 LPXOUT (out), 132 LPXIN (in), 135 MAINXOUT (out), 136 MAINXIN (in)
part G pins: 47 MAC_CLK (in), 105 SPI_0_DO/GPIO_16 (io), 106 SPI_0_DI/GPIO_17 (io), 107 SPI_0_CLK/GPIO_18 (io), 108 SPI_0_SS/GPIO_19 (io), 109 UART_0_RXD/GPIO_21 (io), 110 UART_0_TXD/GPIO_20 (io), 111 UART_1_RXD/GPIO_29 (io), 112 UART_1_TXD/GPIO_28 (io), 116 I2C_1_SDA/GPIO_30 (io), 117 I2C_1_SCL/GPIO_31 (io), 118 I2C_0_SDA/GPIO_22 (io), 119 I2C_0_SCL/GPIO_23 (io)
part H pins: 55 SDD0 (out), 58 ABPS0 (in), 59 ABPS1 (in), 60 CM0 (in), 61 TM0 (in), 63 TM1 (in), 64 CM1 (in), 65 ABPS3 (in), 66 ABPS2 (in), 67 ADC0 (in), 68 ADC1 (in), 69 ADC2 (in), 70 ADC3 (in), 83 ADC7 (in), 84 ADC6 (in), 85 ADC5 (in), 86 ADC4 (in), 87 ABPS6 (in), 88 ABPS7 (in), 89 CM3 (in), 90 TM3 (in), 92 TM2 (in), 93 CM2 (in), 94 ABPS5 (in), 95 ABPS4 (in)
part I pins: 1 VCCPLL0 (power), 8 VCC (power), 10 VCCFPGAIOB5 (power), 22 VCC (power), 24 VCCFPGAIOB5 (power), 29 VCC (power), 32 VCCRCOSC (power), 34 VCCESRAM (power), 41 VCCMSSIOB4 (power), 42 VCC (power), 49 VCC33SDD0 (power), 50 VCC15A (power), 53 VCC33AP (power), 54 VCC33N (power), 71 VAREF0 (power), 73 VCC33ADC0 (power), 75 VCC15ADC0 (power), 78 VCC15ADC1 (power), 80 VCC33ADC1 (power), 82 VAREF1 (power), 100 VAREFOUT (power), 102 VCC33A (power), 113 VCC (power), 114 VCCMSSIOB2 (power), 121 VCCENVM (power), 128 VJTAG (power), 129 VDDBAT (power), 130 VCCLPXTAL (power), 137 VCCMAINXTAL (power), 139 VCC (power), 140 VPP (power), 141 VCCFPGAIOB1 (power), 147 VCCFPGAIOB1 (power), 149 VCC (power), 158 VCCFPGAIOB0 (power), 161 VCCFPGAIOB0 (power), 163 VCC (power), 174 VCCFPGAIOB0 (power), 176 VCC (power), 187 VCCFPGAIOB0 (power), 189 VCC (power), 200 VCCFPGAIOB0 (power), 202 VCC (power), 207 VCCFPGAIOB0 (power)
part J pins: 2 VCOMPLA0 (power), 3 GNDQ (power), 9 GND (power), 23 GND (power), 30 GND (power), 31 GNDRCOSC (power), 40 GND (power), 48 GNDSDD0 (power), 56 GNDA (power), 57 GNDAQ (power), 62 GNDTM0 (power), 72 GND33ADC0 (power), 74 GND33ADC0 (power), 76 GND15ADC0 (power), 77 GND15ADC1 (power), 79 GND33ADC1 (power), 81 GND33ADC1 (power), 91 GNDTM1 (power), 96 GNDAQ (power), 97 GNDA (power), 98 NC, 99 GNDVAREF (power), 115 GND (power), 120 GNDENVM (power), 133 GNDLPXTAL (power), 134 GNDMAINXTAL (power), 138 GND (power), 148 GND (power), 156 GNDQ (power), 157 GNDQ (power), 162 GND (power), 175 GND (power), 188 GND (power), 201 GND (power), 208 GNDQ (power)
part A text: BANK 0
part B text: BANK 1
part C text: BANK 4
part D text: BANK 5

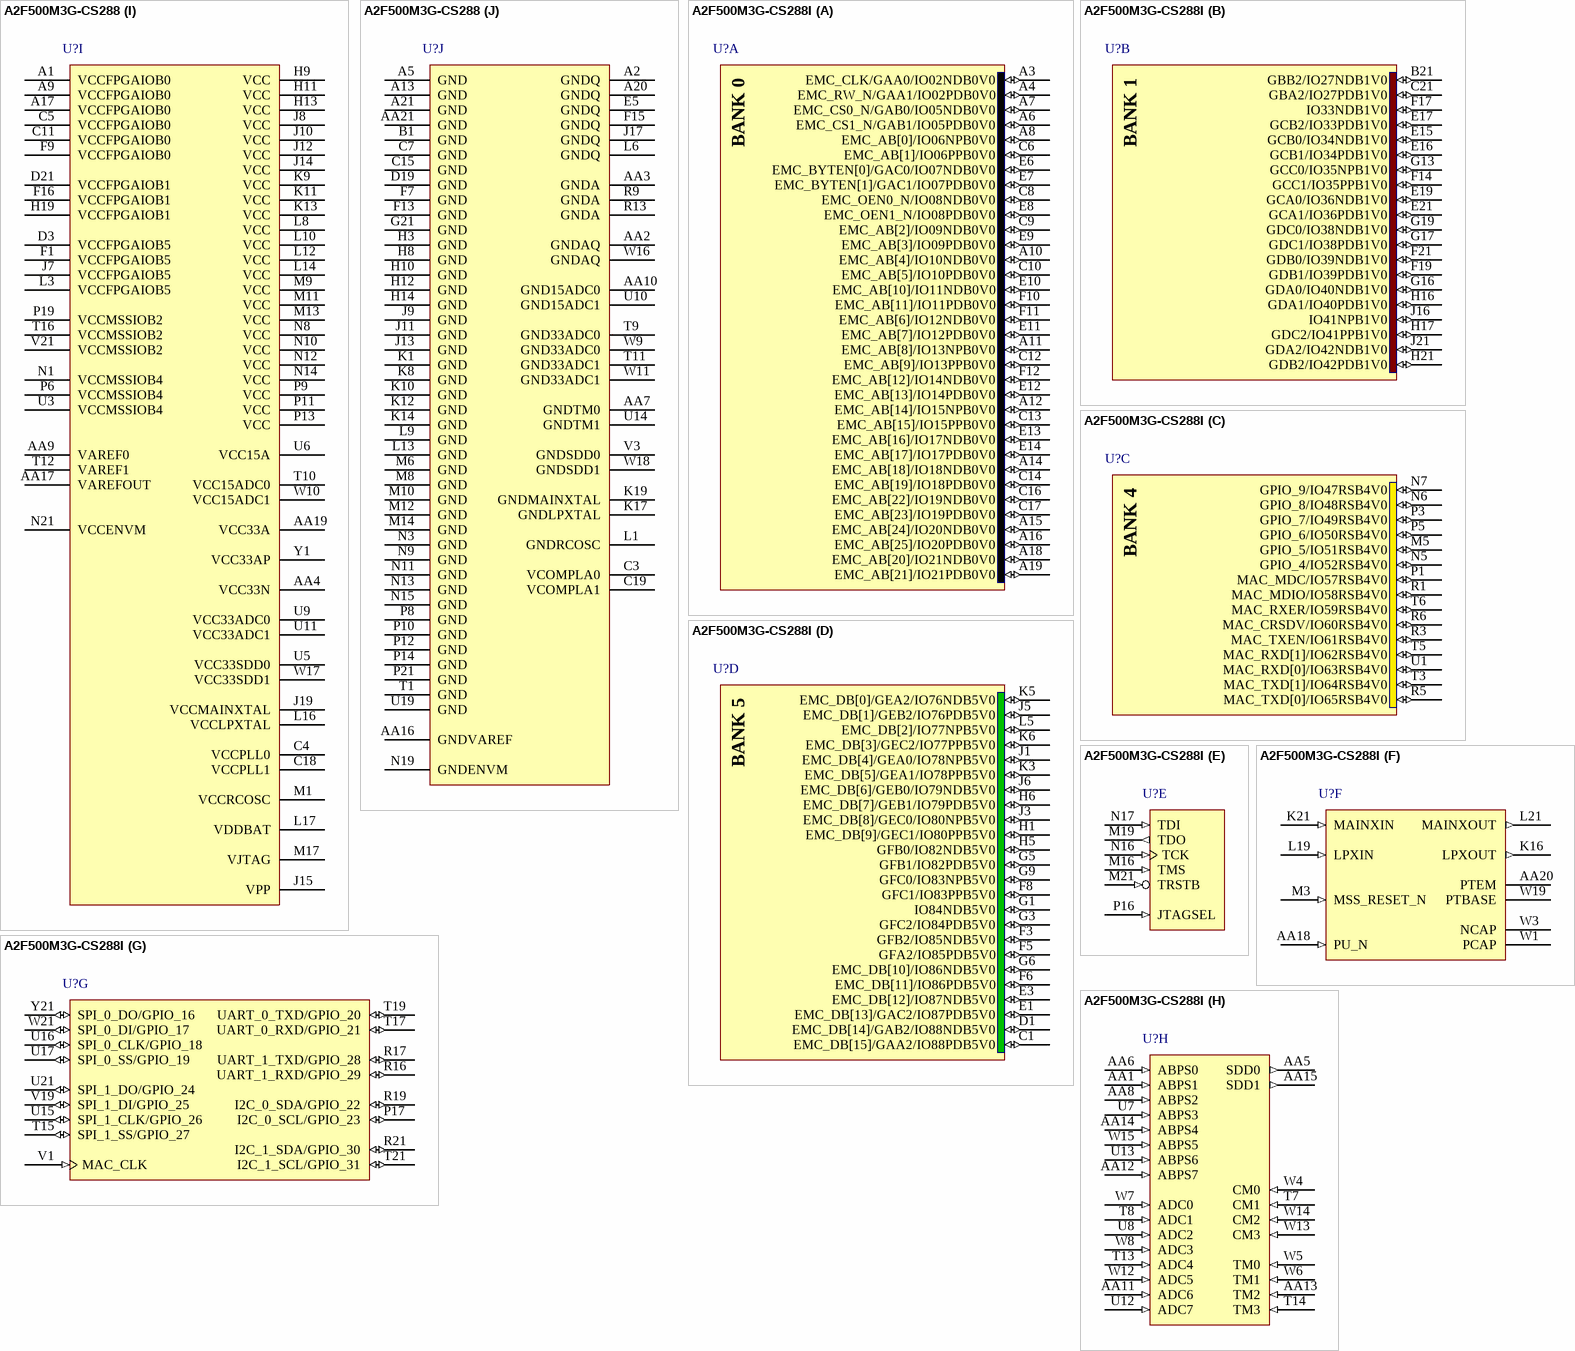
[diagram p69: symbols A2F500M3G-CS288 to A2F500M3G-CS288I]

## A2F500M3G-CS288
designator U?
SmartFusion Intellegent Mixed-Signal FPGA with ARM Cortex-M3, 500000 System Gates, 288-Pin CSP, Standard Speed Grade, Commercial Grade; DatasheetVersion: rev7, Aug-2011; PackageVersion: rev39, Aug-2010; PackageReference: CS288; PackageDescription: 288-Ball Chip Scale Ball Grid Array 0.5 mm Pitch (CS288); ComponentLink1Description: Manufacturer URL; ComponentLink1URL: http://www.actel.com/; ComponentLink2Description: SmartFusion Datasheet; ComponentLink2URL: http://www.actel.com/documents/SmartFusion_DS.pdf; ComponentLink3Description: Package Mechanical Drawings; ComponentLink3URL: http://www.actel.com/documents/PckgMechDrwngs.pdf; ComponentLink4Description: SmartFusion Documents; ComponentLink4URL: http://www.actel.com/products/smartfusion/docs.aspx
footprint CS288 (BGA, 288-Leads, Body 11x11mm, Pitch 0.5mm)
part A pins: A3 EMC_CLK/GAA0/IO02NDB0V0 (io), A4 EMC_RW_N/GAA1/IO02PDB0V0 (io), A6 EMC_CS1_N/GAB1/IO05PDB0V0 (io), A7 EMC_CS0_N/GAB0/IO05NDB0V0 (io), A8 EMC_AB[0]/IO06NPB0V0 (io), A10 EMC_AB[4]/IO10NDB0V0 (io), A11 EMC_AB[8]/IO13NPB0V0 (io), A12 EMC_AB[14]/IO15NPB0V0 (io), A14 EMC_AB[18]/IO18NDB0V0 (io), A15 EMC_AB[24]/IO20NDB0V0 (io), A16 EMC_AB[25]/IO20PDB0V0 (io), A18 EMC_AB[20]/IO21NDB0V0 (io), A19 EMC_AB[21]/IO21PDB0V0 (io), C6 EMC_AB[1]/IO06PPB0V0 (io), C8 EMC_OEN0_N/IO08NDB0V0 (io), C9 EMC_AB[2]/IO09NDB0V0 (io), C10 EMC_AB[5]/IO10PDB0V0 (io), C12 EMC_AB[9]/IO13PPB0V0 (io), C13 EMC_AB[15]/IO15PPB0V0 (io), C14 EMC_AB[19]/IO18PDB0V0 (io), C16 EMC_AB[22]/IO19NDB0V0 (io), C17 EMC_AB[23]/IO19PDB0V0 (io), E6 EMC_BYTEN[0]/GAC0/IO07NDB0V0 (io), E7 EMC_BYTEN[1]/GAC1/IO07PDB0V0 (io), E8 EMC_OEN1_N/IO08PDB0V0 (io), E9 EMC_AB[3]/IO09PDB0V0 (io), E10 EMC_AB[10]/IO11NDB0V0 (io), E11 EMC_AB[7]/IO12PDB0V0 (io), E12 EMC_AB[13]/IO14PDB0V0 (io), E13 EMC_AB[16]/IO17NDB0V0 (io), E14 EMC_AB[17]/IO17PDB0V0 (io), F10 EMC_AB[11]/IO11PDB0V0 (io), F11 EMC_AB[6]/IO12NDB0V0 (io), F12 EMC_AB[12]/IO14NDB0V0 (io)
part B pins: B21 GBB2/IO27NDB1V0 (io), C21 GBA2/IO27PDB1V0 (io), E15 GCB0/IO34NDB1V0 (io), E16 GCB1/IO34PDB1V0 (io), E17 GCB2/IO33PDB1V0 (io), E19 GCA0/IO36NDB1V0 (io), E21 GCA1/IO36PDB1V0 (io), F14 GCC1/IO35PPB1V0 (io), F17 IO33NDB1V0 (io), F19 GDB1/IO39PDB1V0 (io), F21 GDB0/IO39NDB1V0 (io), G13 GCC0/IO35NPB1V0 (io), G16 GDA0/IO40NDB1V0 (io), G17 GDC1/IO38PDB1V0 (io), G19 GDC0/IO38NDB1V0 (io), H16 GDA1/IO40PDB1V0 (io), H17 GDC2/IO41PPB1V0 (io), H21 GDB2/IO42PDB1V0 (io), J16 IO41NPB1V0 (io), J21 GDA2/IO42NDB1V0 (io)
part C pins: M5 GPIO_5/IO51RSB4V0 (io), N5 GPIO_4/IO52RSB4V0 (io), N6 GPIO_8/IO48RSB4V0 (io), N7 GPIO_9/IO47RSB4V0 (io), P1 MAC_MDC/IO57RSB4V0 (io), P3 GPIO_7/IO49RSB4V0 (io), P5 GPIO_6/IO50RSB4V0 (io), R1 MAC_MDIO/IO58RSB4V0 (io), R3 MAC_TXEN/IO61RSB4V0 (io), R5 MAC_TXD[0]/IO65RSB4V0 (io), R6 MAC_CRSDV/IO60RSB4V0 (io), T3 MAC_TXD[1]/IO64RSB4V0 (io), T5 MAC_RXD[1]/IO62RSB4V0 (io), T6 MAC_RXER/IO59RSB4V0 (io), U1 MAC_RXD[0]/IO63RSB4V0 (io)
part D pins: C1 EMC_DB[15]/GAA2/IO88PDB5V0 (io), D1 EMC_DB[14]/GAB2/IO88NDB5V0 (io), E1 EMC_DB[13]/GAC2/IO87PDB5V0 (io), E3 EMC_DB[12]/IO87NDB5V0 (io), F3 GFB2/IO85NDB5V0 (io), F5 GFA2/IO85PDB5V0 (io), F6 EMC_DB[11]/IO86PDB5V0 (io), F8 GFC1/IO83PPB5V0 (io), G1 IO84NDB5V0 (io), G3 GFC2/IO84PDB5V0 (io), G5 GFB1/IO82PDB5V0 (io), G6 EMC_DB[10]/IO86NDB5V0 (io), G9 GFC0/IO83NPB5V0 (io), H1 EMC_DB[9]/GEC1/IO80PPB5V0 (io), H5 GFB0/IO82NDB5V0 (io), H6 EMC_DB[7]/GEB1/IO79PDB5V0 (io), J1 EMC_DB[4]/GEA0/IO78NPB5V0 (io), J3 EMC_DB[8]/GEC0/IO80NPB5V0 (io), J5 EMC_DB[1]/GEB2/IO76PDB5V0 (io), J6 EMC_DB[6]/GEB0/IO79NDB5V0 (io), K3 EMC_DB[5]/GEA1/IO78PPB5V0 (io), K5 EMC_DB[0]/GEA2/IO76NDB5V0 (io), K6 EMC_DB[3]/GEC2/IO77PPB5V0 (io), L5 EMC_DB[2]/IO77NPB5V0 (io)
part E pins: M16 TMS (in), M19 TDO (out), M21 TRSTB (in), N16 TCK (in), N17 TDI (in), P16 JTAGSEL (in)
part F pins: AA18 PU_N (in), AA20 PTEM, K16 LPXOUT (out), K21 MAINXIN (in), L19 LPXIN (in), L21 MAINXOUT (out), M3 MSS_RESET_N (in), W1 PCAP, W3 NCAP, W19 PTBASE
part G pins: P17 I2C_0_SCL/GPIO_23 (io), R16 UART_1_RXD/GPIO_29 (io), R17 UART_1_TXD/GPIO_28 (io), R19 I2C_0_SDA/GPIO_22 (io), R21 I2C_1_SDA/GPIO_30 (io), T15 SPI_1_SS/GPIO_27 (io), T17 UART_0_RXD/GPIO_21 (io), T19 UART_0_TXD/GPIO_20 (io), T21 I2C_1_SCL/GPIO_31 (io), U15 SPI_1_CLK/GPIO_26 (io), U16 SPI_0_CLK/GPIO_18 (io), U17 SPI_0_SS/GPIO_19 (io), U21 SPI_1_DO/GPIO_24 (io), V1 MAC_CLK (in), V19 SPI_1_DI/GPIO_25 (io), W21 SPI_0_DI/GPIO_17 (io), Y21 SPI_0_DO/GPIO_16 (io)
part H pins: AA1 ABPS1 (in), AA5 SDD0 (out), AA6 ABPS0 (in), AA8 ABPS2 (in), AA11 ADC6 (in), AA12 ABPS7 (in), AA13 TM2 (in), AA14 ABPS4 (in), AA15 SDD1 (out), T7 CM1 (in), T8 ADC1 (in), T13 ADC4 (in), T14 TM3 (in), U7 ABPS3 (in), U8 ADC2 (in), U12 ADC7 (in), U13 ABPS6 (in), W4 CM0 (in), W5 TM0 (in), W6 TM1 (in), W7 ADC0 (in), W8 ADC3 (in), W12 ADC5 (in), W13 CM3 (in), W14 CM2 (in), W15 ABPS5 (in)
part I pins: A1 VCCFPGAIOB0 (power), A9 VCCFPGAIOB0 (power), A17 VCCFPGAIOB0 (power), AA4 VCC33N (power), AA9 VAREF0 (power), AA17 VAREFOUT (power), AA19 VCC33A (power), C4 VCCPLL0 (power), C5 VCCFPGAIOB0 (power), C11 VCCFPGAIOB0 (power), C18 VCCPLL1 (power), D3 VCCFPGAIOB5 (power), D21 VCCFPGAIOB1 (power), F1 VCCFPGAIOB5 (power), F9 VCCFPGAIOB0 (power), F16 VCCFPGAIOB1 (power), H9 VCC (power), H11 VCC (power), H13 VCC (power), H19 VCCFPGAIOB1 (power), J7 VCCFPGAIOB5 (power), J8 VCC (power), J10 VCC (power), J12 VCC (power), J14 VCC (power), J15 VPP (power), J19 VCCMAINXTAL (power), K9 VCC (power), K11 VCC (power), K13 VCC (power), L3 VCCFPGAIOB5 (power), L8 VCC (power), L10 VCC (power), L12 VCC (power), L14 VCC (power), L16 VCCLPXTAL (power), L17 VDDBAT (power), M1 VCCRCOSC (power), M9 VCC (power), M11 VCC (power), M13 VCC (power), M17 VJTAG (power), N1 VCCMSSIOB4 (power), N8 VCC (power), N10 VCC (power), N12 VCC (power), N14 VCC (power), N21 VCCENVM (power), P6 VCCMSSIOB4 (power), P9 VCC (power), P11 VCC (power), P13 VCC (power), P19 VCCMSSIOB2 (power), T10 VCC15ADC0 (power), T12 VAREF1 (power), T16 VCCMSSIOB2 (power), U3 VCCMSSIOB4 (power), U5 VCC33SDD0 (power), U6 VCC15A (power), U9 VCC33ADC0 (power), U11 VCC33ADC1 (power), V21 VCCMSSIOB2 (power), W10 VCC15ADC1 (power), W17 VCC33SDD1 (power), Y1 VCC33AP (power)
part J pins: A2 GNDQ (power), A5 GND (power), A13 GND (power), A20 GNDQ (power), A21 GND (power), AA2 GNDAQ (power), AA3 GNDA (power), AA7 GNDTM0 (power), AA10 GND15ADC0 (power), AA16 GNDVAREF (power), AA21 GND (power), B1 GND (power), C3 VCOMPLA0 (power), C7 GND (power), C15 GND (power), C19 VCOMPLA1 (power), D19 GND (power), E5 GNDQ (power), F7 GND (power), F13 GND (power), F15 GNDQ (power), G21 GND (power), H3 GND (power), H8 GND (power), H10 GND (power), H12 GND (power), H14 GND (power), J9 GND (power), J11 GND (power), J13 GND (power), J17 GNDQ (power), K1 GND (power), K8 GND (power), K10 GND (power), K12 GND (power), K14 GND (power), K17 GNDLPXTAL (power), K19 GNDMAINXTAL (power), L1 GNDRCOSC (power), L6 GNDQ (power), L9 GND (power), L13 GND (power), M6 GND (power), M8 GND (power), M10 GND (power), M12 GND (power), M14 GND (power), N3 GND (power), N9 GND (power), N11 GND (power), N13 GND (power), N15 GND (power), N19 GNDENVM (power), P8 GND (power), P10 GND (power), P12 GND (power), P14 GND (power), P21 GND (power), R9 GNDA (power), R13 GNDA (power), T1 GND (power), T9 GND33ADC0 (power), T11 GND33ADC1 (power), U10 GND15ADC1 (power), U14 GNDTM1 (power), U19 GND (power), V3 GNDSDD0 (power), W9 GND33ADC0 (power), W11 GND33ADC1 (power), W16 GNDAQ (power), W18 GNDSDD1 (power)
part A text: BANK 0
part B text: BANK 1
part C text: BANK 4
part D text: BANK 5

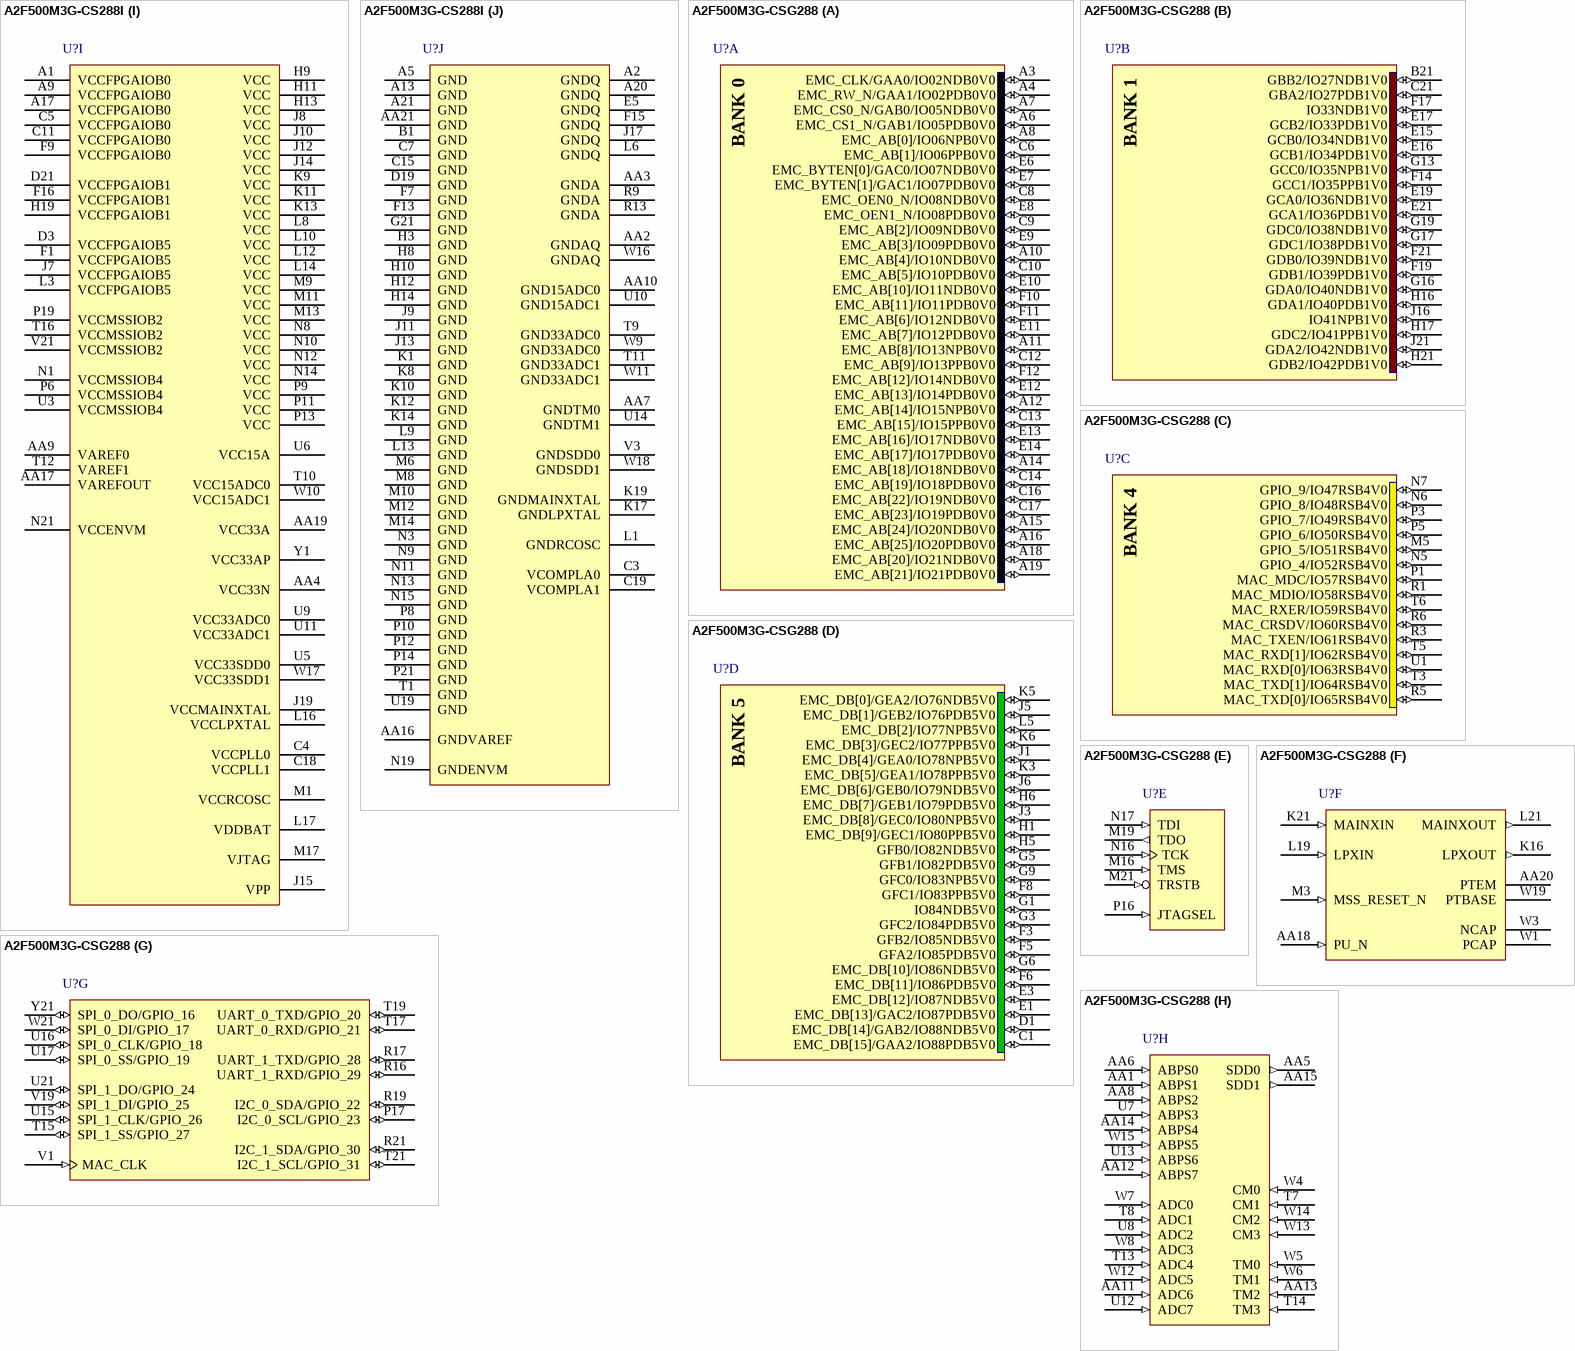
[diagram p70: symbols A2F500M3G-CS288I to A2F500M3G-CSG288]

## A2F500M3G-CS288I
designator U?
SmartFusion Intellegent Mixed-Signal FPGA with ARM Cortex-M3, 500000 System Gates, 288-Pin CSP, Standard Speed Grade, Industrial Grade; DatasheetVersion: rev7, Aug-2011; PackageVersion: rev39, Aug-2010; PackageReference: CS288; PackageDescription: 288-Ball Chip Scale Ball Grid Array 0.5 mm Pitch (CS288); ComponentLink1Description: Manufacturer URL; ComponentLink1URL: http://www.actel.com/; ComponentLink2Description: SmartFusion Datasheet; ComponentLink2URL: http://www.actel.com/documents/SmartFusion_DS.pdf; ComponentLink3Description: Package Mechanical Drawings; ComponentLink3URL: http://www.actel.com/documents/PckgMechDrwngs.pdf; ComponentLink4Description: SmartFusion Documents; ComponentLink4URL: http://www.actel.com/products/smartfusion/docs.aspx
footprint CS288 (BGA, 288-Leads, Body 11x11mm, Pitch 0.5mm)
part A pins: A3 EMC_CLK/GAA0/IO02NDB0V0 (io), A4 EMC_RW_N/GAA1/IO02PDB0V0 (io), A6 EMC_CS1_N/GAB1/IO05PDB0V0 (io), A7 EMC_CS0_N/GAB0/IO05NDB0V0 (io), A8 EMC_AB[0]/IO06NPB0V0 (io), A10 EMC_AB[4]/IO10NDB0V0 (io), A11 EMC_AB[8]/IO13NPB0V0 (io), A12 EMC_AB[14]/IO15NPB0V0 (io), A14 EMC_AB[18]/IO18NDB0V0 (io), A15 EMC_AB[24]/IO20NDB0V0 (io), A16 EMC_AB[25]/IO20PDB0V0 (io), A18 EMC_AB[20]/IO21NDB0V0 (io), A19 EMC_AB[21]/IO21PDB0V0 (io), C6 EMC_AB[1]/IO06PPB0V0 (io), C8 EMC_OEN0_N/IO08NDB0V0 (io), C9 EMC_AB[2]/IO09NDB0V0 (io), C10 EMC_AB[5]/IO10PDB0V0 (io), C12 EMC_AB[9]/IO13PPB0V0 (io), C13 EMC_AB[15]/IO15PPB0V0 (io), C14 EMC_AB[19]/IO18PDB0V0 (io), C16 EMC_AB[22]/IO19NDB0V0 (io), C17 EMC_AB[23]/IO19PDB0V0 (io), E6 EMC_BYTEN[0]/GAC0/IO07NDB0V0 (io), E7 EMC_BYTEN[1]/GAC1/IO07PDB0V0 (io), E8 EMC_OEN1_N/IO08PDB0V0 (io), E9 EMC_AB[3]/IO09PDB0V0 (io), E10 EMC_AB[10]/IO11NDB0V0 (io), E11 EMC_AB[7]/IO12PDB0V0 (io), E12 EMC_AB[13]/IO14PDB0V0 (io), E13 EMC_AB[16]/IO17NDB0V0 (io), E14 EMC_AB[17]/IO17PDB0V0 (io), F10 EMC_AB[11]/IO11PDB0V0 (io), F11 EMC_AB[6]/IO12NDB0V0 (io), F12 EMC_AB[12]/IO14NDB0V0 (io)
part B pins: B21 GBB2/IO27NDB1V0 (io), C21 GBA2/IO27PDB1V0 (io), E15 GCB0/IO34NDB1V0 (io), E16 GCB1/IO34PDB1V0 (io), E17 GCB2/IO33PDB1V0 (io), E19 GCA0/IO36NDB1V0 (io), E21 GCA1/IO36PDB1V0 (io), F14 GCC1/IO35PPB1V0 (io), F17 IO33NDB1V0 (io), F19 GDB1/IO39PDB1V0 (io), F21 GDB0/IO39NDB1V0 (io), G13 GCC0/IO35NPB1V0 (io), G16 GDA0/IO40NDB1V0 (io), G17 GDC1/IO38PDB1V0 (io), G19 GDC0/IO38NDB1V0 (io), H16 GDA1/IO40PDB1V0 (io), H17 GDC2/IO41PPB1V0 (io), H21 GDB2/IO42PDB1V0 (io), J16 IO41NPB1V0 (io), J21 GDA2/IO42NDB1V0 (io)
part C pins: M5 GPIO_5/IO51RSB4V0 (io), N5 GPIO_4/IO52RSB4V0 (io), N6 GPIO_8/IO48RSB4V0 (io), N7 GPIO_9/IO47RSB4V0 (io), P1 MAC_MDC/IO57RSB4V0 (io), P3 GPIO_7/IO49RSB4V0 (io), P5 GPIO_6/IO50RSB4V0 (io), R1 MAC_MDIO/IO58RSB4V0 (io), R3 MAC_TXEN/IO61RSB4V0 (io), R5 MAC_TXD[0]/IO65RSB4V0 (io), R6 MAC_CRSDV/IO60RSB4V0 (io), T3 MAC_TXD[1]/IO64RSB4V0 (io), T5 MAC_RXD[1]/IO62RSB4V0 (io), T6 MAC_RXER/IO59RSB4V0 (io), U1 MAC_RXD[0]/IO63RSB4V0 (io)
part D pins: C1 EMC_DB[15]/GAA2/IO88PDB5V0 (io), D1 EMC_DB[14]/GAB2/IO88NDB5V0 (io), E1 EMC_DB[13]/GAC2/IO87PDB5V0 (io), E3 EMC_DB[12]/IO87NDB5V0 (io), F3 GFB2/IO85NDB5V0 (io), F5 GFA2/IO85PDB5V0 (io), F6 EMC_DB[11]/IO86PDB5V0 (io), F8 GFC1/IO83PPB5V0 (io), G1 IO84NDB5V0 (io), G3 GFC2/IO84PDB5V0 (io), G5 GFB1/IO82PDB5V0 (io), G6 EMC_DB[10]/IO86NDB5V0 (io), G9 GFC0/IO83NPB5V0 (io), H1 EMC_DB[9]/GEC1/IO80PPB5V0 (io), H5 GFB0/IO82NDB5V0 (io), H6 EMC_DB[7]/GEB1/IO79PDB5V0 (io), J1 EMC_DB[4]/GEA0/IO78NPB5V0 (io), J3 EMC_DB[8]/GEC0/IO80NPB5V0 (io), J5 EMC_DB[1]/GEB2/IO76PDB5V0 (io), J6 EMC_DB[6]/GEB0/IO79NDB5V0 (io), K3 EMC_DB[5]/GEA1/IO78PPB5V0 (io), K5 EMC_DB[0]/GEA2/IO76NDB5V0 (io), K6 EMC_DB[3]/GEC2/IO77PPB5V0 (io), L5 EMC_DB[2]/IO77NPB5V0 (io)
part E pins: M16 TMS (in), M19 TDO (out), M21 TRSTB (in), N16 TCK (in), N17 TDI (in), P16 JTAGSEL (in)
part F pins: AA18 PU_N (in), AA20 PTEM, K16 LPXOUT (out), K21 MAINXIN (in), L19 LPXIN (in), L21 MAINXOUT (out), M3 MSS_RESET_N (in), W1 PCAP, W3 NCAP, W19 PTBASE
part G pins: P17 I2C_0_SCL/GPIO_23 (io), R16 UART_1_RXD/GPIO_29 (io), R17 UART_1_TXD/GPIO_28 (io), R19 I2C_0_SDA/GPIO_22 (io), R21 I2C_1_SDA/GPIO_30 (io), T15 SPI_1_SS/GPIO_27 (io), T17 UART_0_RXD/GPIO_21 (io), T19 UART_0_TXD/GPIO_20 (io), T21 I2C_1_SCL/GPIO_31 (io), U15 SPI_1_CLK/GPIO_26 (io), U16 SPI_0_CLK/GPIO_18 (io), U17 SPI_0_SS/GPIO_19 (io), U21 SPI_1_DO/GPIO_24 (io), V1 MAC_CLK (in), V19 SPI_1_DI/GPIO_25 (io), W21 SPI_0_DI/GPIO_17 (io), Y21 SPI_0_DO/GPIO_16 (io)
part H pins: AA1 ABPS1 (in), AA5 SDD0 (out), AA6 ABPS0 (in), AA8 ABPS2 (in), AA11 ADC6 (in), AA12 ABPS7 (in), AA13 TM2 (in), AA14 ABPS4 (in), AA15 SDD1 (out), T7 CM1 (in), T8 ADC1 (in), T13 ADC4 (in), T14 TM3 (in), U7 ABPS3 (in), U8 ADC2 (in), U12 ADC7 (in), U13 ABPS6 (in), W4 CM0 (in), W5 TM0 (in), W6 TM1 (in), W7 ADC0 (in), W8 ADC3 (in), W12 ADC5 (in), W13 CM3 (in), W14 CM2 (in), W15 ABPS5 (in)
part I pins: A1 VCCFPGAIOB0 (power), A9 VCCFPGAIOB0 (power), A17 VCCFPGAIOB0 (power), AA4 VCC33N (power), AA9 VAREF0 (power), AA17 VAREFOUT (power), AA19 VCC33A (power), C4 VCCPLL0 (power), C5 VCCFPGAIOB0 (power), C11 VCCFPGAIOB0 (power), C18 VCCPLL1 (power), D3 VCCFPGAIOB5 (power), D21 VCCFPGAIOB1 (power), F1 VCCFPGAIOB5 (power), F9 VCCFPGAIOB0 (power), F16 VCCFPGAIOB1 (power), H9 VCC (power), H11 VCC (power), H13 VCC (power), H19 VCCFPGAIOB1 (power), J7 VCCFPGAIOB5 (power), J8 VCC (power), J10 VCC (power), J12 VCC (power), J14 VCC (power), J15 VPP (power), J19 VCCMAINXTAL (power), K9 VCC (power), K11 VCC (power), K13 VCC (power), L3 VCCFPGAIOB5 (power), L8 VCC (power), L10 VCC (power), L12 VCC (power), L14 VCC (power), L16 VCCLPXTAL (power), L17 VDDBAT (power), M1 VCCRCOSC (power), M9 VCC (power), M11 VCC (power), M13 VCC (power), M17 VJTAG (power), N1 VCCMSSIOB4 (power), N8 VCC (power), N10 VCC (power), N12 VCC (power), N14 VCC (power), N21 VCCENVM (power), P6 VCCMSSIOB4 (power), P9 VCC (power), P11 VCC (power), P13 VCC (power), P19 VCCMSSIOB2 (power), T10 VCC15ADC0 (power), T12 VAREF1 (power), T16 VCCMSSIOB2 (power), U3 VCCMSSIOB4 (power), U5 VCC33SDD0 (power), U6 VCC15A (power), U9 VCC33ADC0 (power), U11 VCC33ADC1 (power), V21 VCCMSSIOB2 (power), W10 VCC15ADC1 (power), W17 VCC33SDD1 (power), Y1 VCC33AP (power)
part J pins: A2 GNDQ (power), A5 GND (power), A13 GND (power), A20 GNDQ (power), A21 GND (power), AA2 GNDAQ (power), AA3 GNDA (power), AA7 GNDTM0 (power), AA10 GND15ADC0 (power), AA16 GNDVAREF (power), AA21 GND (power), B1 GND (power), C3 VCOMPLA0 (power), C7 GND (power), C15 GND (power), C19 VCOMPLA1 (power), D19 GND (power), E5 GNDQ (power), F7 GND (power), F13 GND (power), F15 GNDQ (power), G21 GND (power), H3 GND (power), H8 GND (power), H10 GND (power), H12 GND (power), H14 GND (power), J9 GND (power), J11 GND (power), J13 GND (power), J17 GNDQ (power), K1 GND (power), K8 GND (power), K10 GND (power), K12 GND (power), K14 GND (power), K17 GNDLPXTAL (power), K19 GNDMAINXTAL (power), L1 GNDRCOSC (power), L6 GNDQ (power), L9 GND (power), L13 GND (power), M6 GND (power), M8 GND (power), M10 GND (power), M12 GND (power), M14 GND (power), N3 GND (power), N9 GND (power), N11 GND (power), N13 GND (power), N15 GND (power), N19 GNDENVM (power), P8 GND (power), P10 GND (power), P12 GND (power), P14 GND (power), P21 GND (power), R9 GNDA (power), R13 GNDA (power), T1 GND (power), T9 GND33ADC0 (power), T11 GND33ADC1 (power), U10 GND15ADC1 (power), U14 GNDTM1 (power), U19 GND (power), V3 GNDSDD0 (power), W9 GND33ADC0 (power), W11 GND33ADC1 (power), W16 GNDAQ (power), W18 GNDSDD1 (power)
part A text: BANK 0
part B text: BANK 1
part C text: BANK 4
part D text: BANK 5

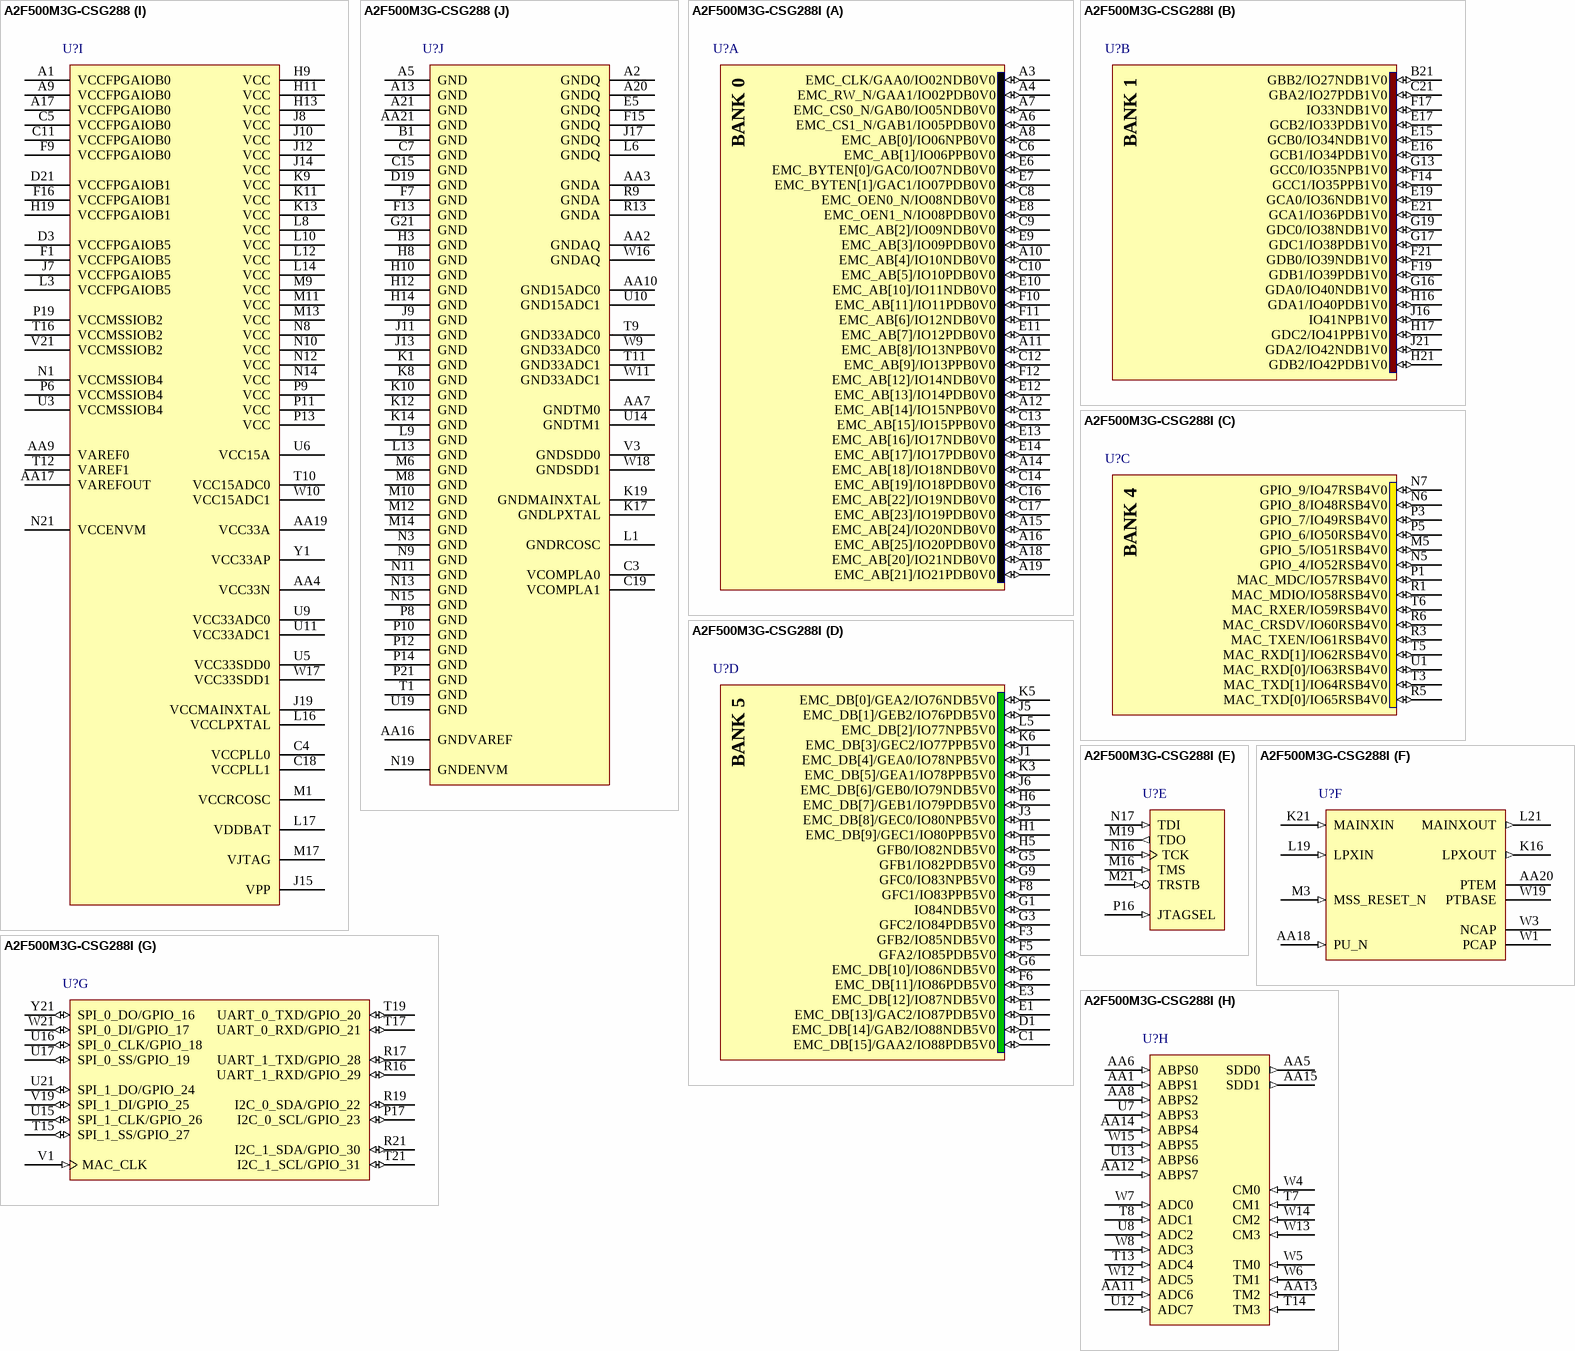
[diagram p71: symbols A2F500M3G-CSG288 to A2F500M3G-CSG288I]

## A2F500M3G-CSG288
designator U?
SmartFusion Intellegent Mixed-Signal FPGA with ARM Cortex-M3, 500000 System Gates, 288-Pin CSP, Standard Speed Grade, Commercial Grade, Pb-Free; DatasheetVersion: rev7, Aug-2011; PackageVersion: rev39, Aug-2010; PackageReference: CS288; PackageDescription: 288-Ball Chip Scale Ball Grid Array 0.5 mm Pitch (CS288); ComponentLink1Description: Manufacturer URL; ComponentLink1URL: http://www.actel.com/; ComponentLink2Description: SmartFusion Datasheet; ComponentLink2URL: http://www.actel.com/documents/SmartFusion_DS.pdf; ComponentLink3Description: Package Mechanical Drawings; ComponentLink3URL: http://www.actel.com/documents/PckgMechDrwngs.pdf; ComponentLink4Description: SmartFusion Documents; ComponentLink4URL: http://www.actel.com/products/smartfusion/docs.aspx
footprint CS288 (BGA, 288-Leads, Body 11x11mm, Pitch 0.5mm)
part A pins: A3 EMC_CLK/GAA0/IO02NDB0V0 (io), A4 EMC_RW_N/GAA1/IO02PDB0V0 (io), A6 EMC_CS1_N/GAB1/IO05PDB0V0 (io), A7 EMC_CS0_N/GAB0/IO05NDB0V0 (io), A8 EMC_AB[0]/IO06NPB0V0 (io), A10 EMC_AB[4]/IO10NDB0V0 (io), A11 EMC_AB[8]/IO13NPB0V0 (io), A12 EMC_AB[14]/IO15NPB0V0 (io), A14 EMC_AB[18]/IO18NDB0V0 (io), A15 EMC_AB[24]/IO20NDB0V0 (io), A16 EMC_AB[25]/IO20PDB0V0 (io), A18 EMC_AB[20]/IO21NDB0V0 (io), A19 EMC_AB[21]/IO21PDB0V0 (io), C6 EMC_AB[1]/IO06PPB0V0 (io), C8 EMC_OEN0_N/IO08NDB0V0 (io), C9 EMC_AB[2]/IO09NDB0V0 (io), C10 EMC_AB[5]/IO10PDB0V0 (io), C12 EMC_AB[9]/IO13PPB0V0 (io), C13 EMC_AB[15]/IO15PPB0V0 (io), C14 EMC_AB[19]/IO18PDB0V0 (io), C16 EMC_AB[22]/IO19NDB0V0 (io), C17 EMC_AB[23]/IO19PDB0V0 (io), E6 EMC_BYTEN[0]/GAC0/IO07NDB0V0 (io), E7 EMC_BYTEN[1]/GAC1/IO07PDB0V0 (io), E8 EMC_OEN1_N/IO08PDB0V0 (io), E9 EMC_AB[3]/IO09PDB0V0 (io), E10 EMC_AB[10]/IO11NDB0V0 (io), E11 EMC_AB[7]/IO12PDB0V0 (io), E12 EMC_AB[13]/IO14PDB0V0 (io), E13 EMC_AB[16]/IO17NDB0V0 (io), E14 EMC_AB[17]/IO17PDB0V0 (io), F10 EMC_AB[11]/IO11PDB0V0 (io), F11 EMC_AB[6]/IO12NDB0V0 (io), F12 EMC_AB[12]/IO14NDB0V0 (io)
part B pins: B21 GBB2/IO27NDB1V0 (io), C21 GBA2/IO27PDB1V0 (io), E15 GCB0/IO34NDB1V0 (io), E16 GCB1/IO34PDB1V0 (io), E17 GCB2/IO33PDB1V0 (io), E19 GCA0/IO36NDB1V0 (io), E21 GCA1/IO36PDB1V0 (io), F14 GCC1/IO35PPB1V0 (io), F17 IO33NDB1V0 (io), F19 GDB1/IO39PDB1V0 (io), F21 GDB0/IO39NDB1V0 (io), G13 GCC0/IO35NPB1V0 (io), G16 GDA0/IO40NDB1V0 (io), G17 GDC1/IO38PDB1V0 (io), G19 GDC0/IO38NDB1V0 (io), H16 GDA1/IO40PDB1V0 (io), H17 GDC2/IO41PPB1V0 (io), H21 GDB2/IO42PDB1V0 (io), J16 IO41NPB1V0 (io), J21 GDA2/IO42NDB1V0 (io)
part C pins: M5 GPIO_5/IO51RSB4V0 (io), N5 GPIO_4/IO52RSB4V0 (io), N6 GPIO_8/IO48RSB4V0 (io), N7 GPIO_9/IO47RSB4V0 (io), P1 MAC_MDC/IO57RSB4V0 (io), P3 GPIO_7/IO49RSB4V0 (io), P5 GPIO_6/IO50RSB4V0 (io), R1 MAC_MDIO/IO58RSB4V0 (io), R3 MAC_TXEN/IO61RSB4V0 (io), R5 MAC_TXD[0]/IO65RSB4V0 (io), R6 MAC_CRSDV/IO60RSB4V0 (io), T3 MAC_TXD[1]/IO64RSB4V0 (io), T5 MAC_RXD[1]/IO62RSB4V0 (io), T6 MAC_RXER/IO59RSB4V0 (io), U1 MAC_RXD[0]/IO63RSB4V0 (io)
part D pins: C1 EMC_DB[15]/GAA2/IO88PDB5V0 (io), D1 EMC_DB[14]/GAB2/IO88NDB5V0 (io), E1 EMC_DB[13]/GAC2/IO87PDB5V0 (io), E3 EMC_DB[12]/IO87NDB5V0 (io), F3 GFB2/IO85NDB5V0 (io), F5 GFA2/IO85PDB5V0 (io), F6 EMC_DB[11]/IO86PDB5V0 (io), F8 GFC1/IO83PPB5V0 (io), G1 IO84NDB5V0 (io), G3 GFC2/IO84PDB5V0 (io), G5 GFB1/IO82PDB5V0 (io), G6 EMC_DB[10]/IO86NDB5V0 (io), G9 GFC0/IO83NPB5V0 (io), H1 EMC_DB[9]/GEC1/IO80PPB5V0 (io), H5 GFB0/IO82NDB5V0 (io), H6 EMC_DB[7]/GEB1/IO79PDB5V0 (io), J1 EMC_DB[4]/GEA0/IO78NPB5V0 (io), J3 EMC_DB[8]/GEC0/IO80NPB5V0 (io), J5 EMC_DB[1]/GEB2/IO76PDB5V0 (io), J6 EMC_DB[6]/GEB0/IO79NDB5V0 (io), K3 EMC_DB[5]/GEA1/IO78PPB5V0 (io), K5 EMC_DB[0]/GEA2/IO76NDB5V0 (io), K6 EMC_DB[3]/GEC2/IO77PPB5V0 (io), L5 EMC_DB[2]/IO77NPB5V0 (io)
part E pins: M16 TMS (in), M19 TDO (out), M21 TRSTB (in), N16 TCK (in), N17 TDI (in), P16 JTAGSEL (in)
part F pins: AA18 PU_N (in), AA20 PTEM, K16 LPXOUT (out), K21 MAINXIN (in), L19 LPXIN (in), L21 MAINXOUT (out), M3 MSS_RESET_N (in), W1 PCAP, W3 NCAP, W19 PTBASE
part G pins: P17 I2C_0_SCL/GPIO_23 (io), R16 UART_1_RXD/GPIO_29 (io), R17 UART_1_TXD/GPIO_28 (io), R19 I2C_0_SDA/GPIO_22 (io), R21 I2C_1_SDA/GPIO_30 (io), T15 SPI_1_SS/GPIO_27 (io), T17 UART_0_RXD/GPIO_21 (io), T19 UART_0_TXD/GPIO_20 (io), T21 I2C_1_SCL/GPIO_31 (io), U15 SPI_1_CLK/GPIO_26 (io), U16 SPI_0_CLK/GPIO_18 (io), U17 SPI_0_SS/GPIO_19 (io), U21 SPI_1_DO/GPIO_24 (io), V1 MAC_CLK (in), V19 SPI_1_DI/GPIO_25 (io), W21 SPI_0_DI/GPIO_17 (io), Y21 SPI_0_DO/GPIO_16 (io)
part H pins: AA1 ABPS1 (in), AA5 SDD0 (out), AA6 ABPS0 (in), AA8 ABPS2 (in), AA11 ADC6 (in), AA12 ABPS7 (in), AA13 TM2 (in), AA14 ABPS4 (in), AA15 SDD1 (out), T7 CM1 (in), T8 ADC1 (in), T13 ADC4 (in), T14 TM3 (in), U7 ABPS3 (in), U8 ADC2 (in), U12 ADC7 (in), U13 ABPS6 (in), W4 CM0 (in), W5 TM0 (in), W6 TM1 (in), W7 ADC0 (in), W8 ADC3 (in), W12 ADC5 (in), W13 CM3 (in), W14 CM2 (in), W15 ABPS5 (in)
part I pins: A1 VCCFPGAIOB0 (power), A9 VCCFPGAIOB0 (power), A17 VCCFPGAIOB0 (power), AA4 VCC33N (power), AA9 VAREF0 (power), AA17 VAREFOUT (power), AA19 VCC33A (power), C4 VCCPLL0 (power), C5 VCCFPGAIOB0 (power), C11 VCCFPGAIOB0 (power), C18 VCCPLL1 (power), D3 VCCFPGAIOB5 (power), D21 VCCFPGAIOB1 (power), F1 VCCFPGAIOB5 (power), F9 VCCFPGAIOB0 (power), F16 VCCFPGAIOB1 (power), H9 VCC (power), H11 VCC (power), H13 VCC (power), H19 VCCFPGAIOB1 (power), J7 VCCFPGAIOB5 (power), J8 VCC (power), J10 VCC (power), J12 VCC (power), J14 VCC (power), J15 VPP (power), J19 VCCMAINXTAL (power), K9 VCC (power), K11 VCC (power), K13 VCC (power), L3 VCCFPGAIOB5 (power), L8 VCC (power), L10 VCC (power), L12 VCC (power), L14 VCC (power), L16 VCCLPXTAL (power), L17 VDDBAT (power), M1 VCCRCOSC (power), M9 VCC (power), M11 VCC (power), M13 VCC (power), M17 VJTAG (power), N1 VCCMSSIOB4 (power), N8 VCC (power), N10 VCC (power), N12 VCC (power), N14 VCC (power), N21 VCCENVM (power), P6 VCCMSSIOB4 (power), P9 VCC (power), P11 VCC (power), P13 VCC (power), P19 VCCMSSIOB2 (power), T10 VCC15ADC0 (power), T12 VAREF1 (power), T16 VCCMSSIOB2 (power), U3 VCCMSSIOB4 (power), U5 VCC33SDD0 (power), U6 VCC15A (power), U9 VCC33ADC0 (power), U11 VCC33ADC1 (power), V21 VCCMSSIOB2 (power), W10 VCC15ADC1 (power), W17 VCC33SDD1 (power), Y1 VCC33AP (power)
part J pins: A2 GNDQ (power), A5 GND (power), A13 GND (power), A20 GNDQ (power), A21 GND (power), AA2 GNDAQ (power), AA3 GNDA (power), AA7 GNDTM0 (power), AA10 GND15ADC0 (power), AA16 GNDVAREF (power), AA21 GND (power), B1 GND (power), C3 VCOMPLA0 (power), C7 GND (power), C15 GND (power), C19 VCOMPLA1 (power), D19 GND (power), E5 GNDQ (power), F7 GND (power), F13 GND (power), F15 GNDQ (power), G21 GND (power), H3 GND (power), H8 GND (power), H10 GND (power), H12 GND (power), H14 GND (power), J9 GND (power), J11 GND (power), J13 GND (power), J17 GNDQ (power), K1 GND (power), K8 GND (power), K10 GND (power), K12 GND (power), K14 GND (power), K17 GNDLPXTAL (power), K19 GNDMAINXTAL (power), L1 GNDRCOSC (power), L6 GNDQ (power), L9 GND (power), L13 GND (power), M6 GND (power), M8 GND (power), M10 GND (power), M12 GND (power), M14 GND (power), N3 GND (power), N9 GND (power), N11 GND (power), N13 GND (power), N15 GND (power), N19 GNDENVM (power), P8 GND (power), P10 GND (power), P12 GND (power), P14 GND (power), P21 GND (power), R9 GNDA (power), R13 GNDA (power), T1 GND (power), T9 GND33ADC0 (power), T11 GND33ADC1 (power), U10 GND15ADC1 (power), U14 GNDTM1 (power), U19 GND (power), V3 GNDSDD0 (power), W9 GND33ADC0 (power), W11 GND33ADC1 (power), W16 GNDAQ (power), W18 GNDSDD1 (power)
part A text: BANK 0
part B text: BANK 1
part C text: BANK 4
part D text: BANK 5

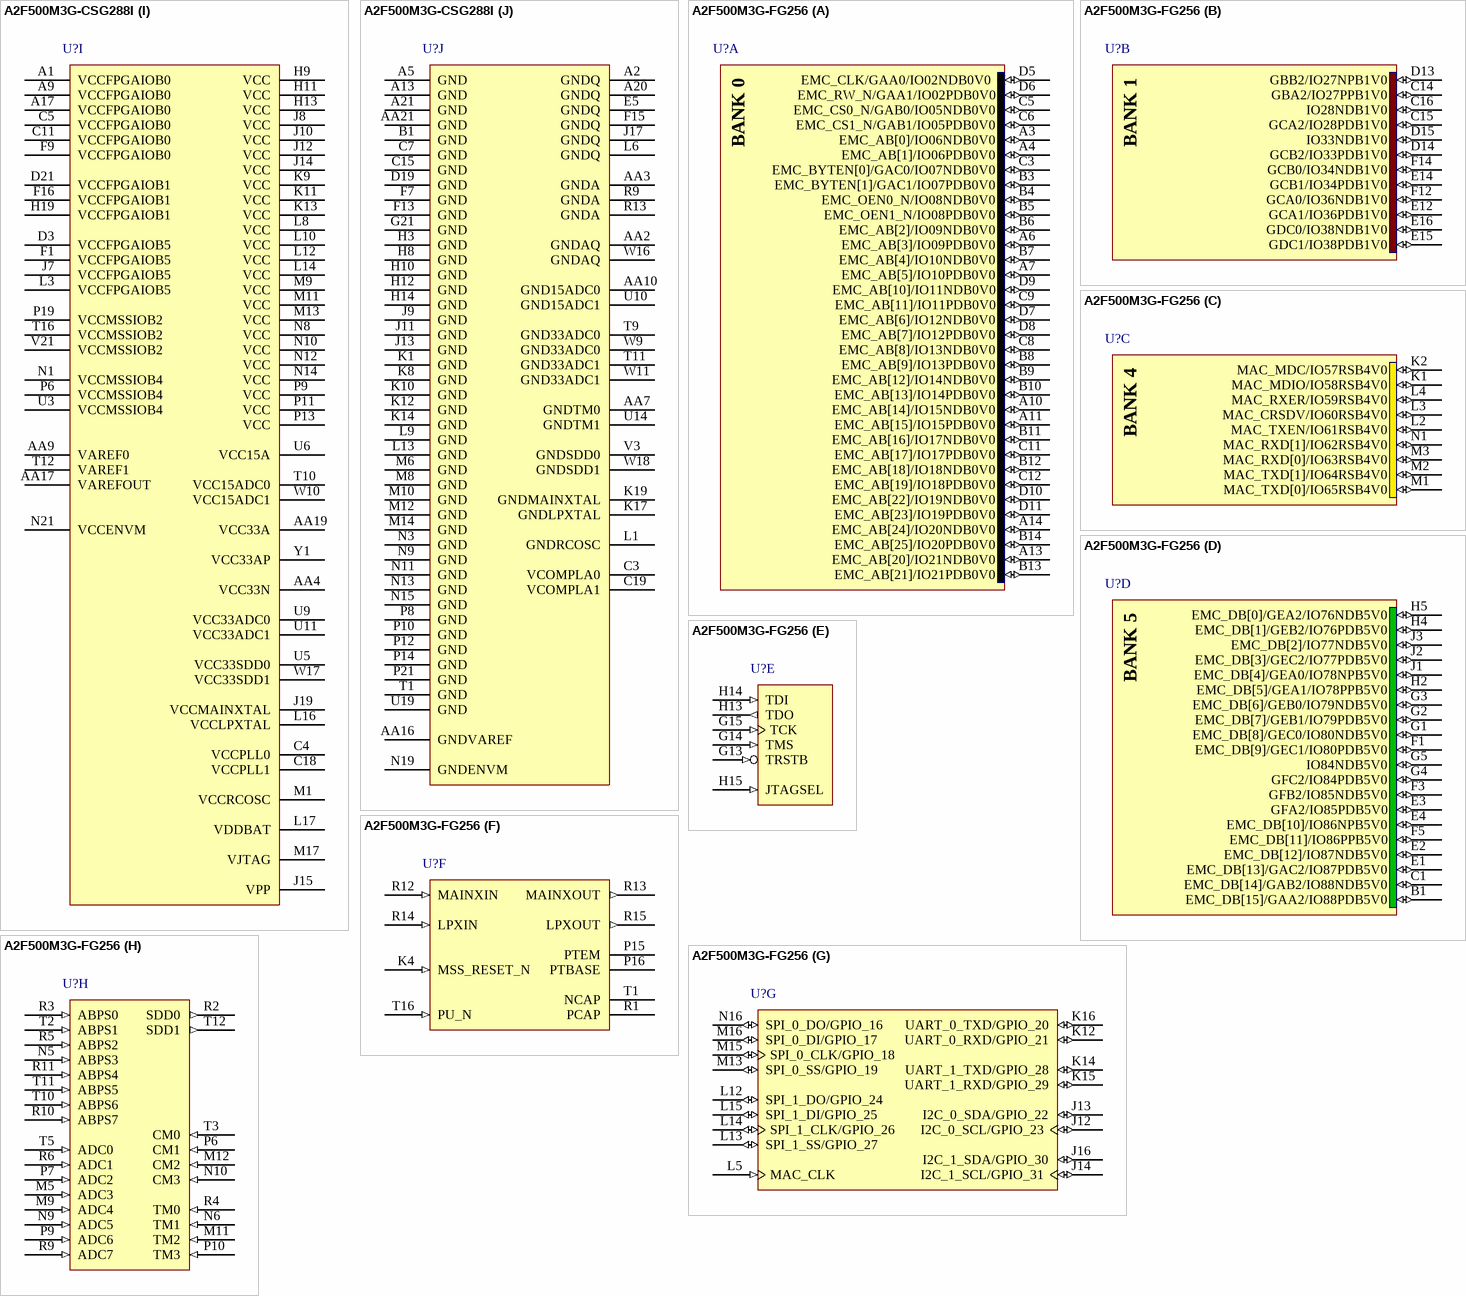
[diagram p72: symbols A2F500M3G-CSG288I to A2F500M3G-FG256]